# Altium schematic symbol library dungvh03-CERN_Logic.SchLib: 486 symbols (part 8 of 54)
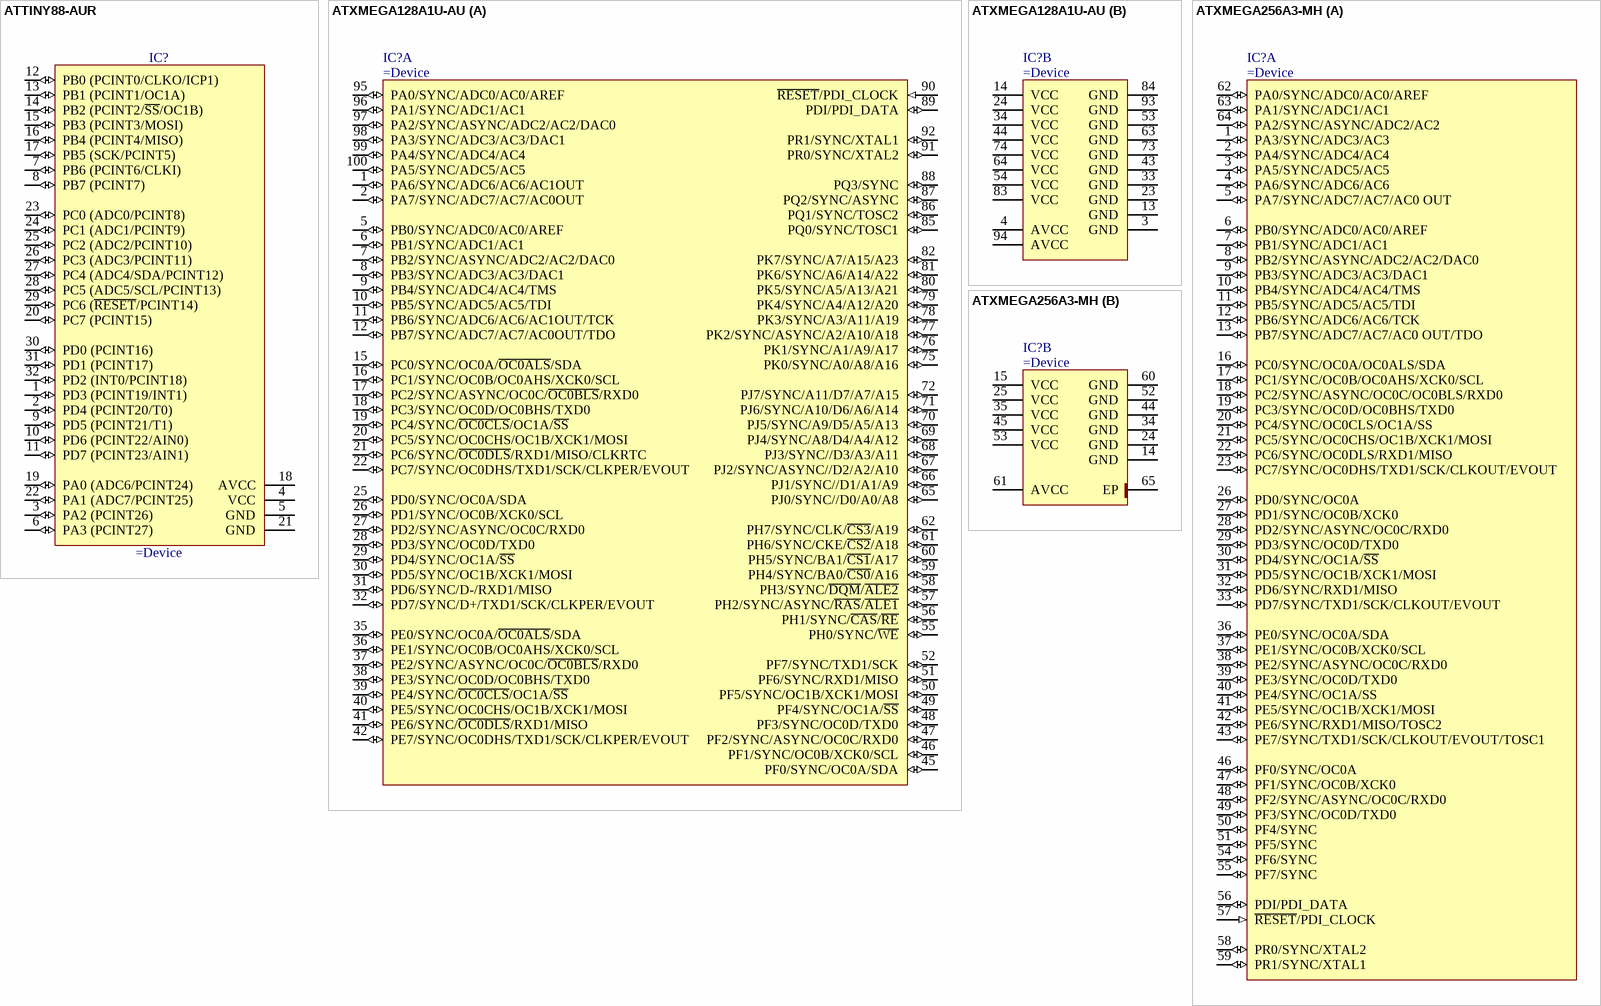
[diagram p268: symbols ATTINY88-AUR to ATXMEGA256A3-MH]

## ATXMEGA256A3-MH
designator IC?
8/16-bit AVR XMEGA A3 Microcontroller, 1.6-3.6V, 32MHz, 256KB + 8KB Flash, 4KB EEPROM, 16KB SRAM, 64-pin MLF, Industrial Grade (-40°C to 85°C), Pb-Free
part A pins: 1 PA3/SYNC/ADC3/AC3 (io), 2 PA4/SYNC/ADC4/AC4 (io), 3 PA5/SYNC/ADC5/AC5 (io), 4 PA6/SYNC/ADC6/AC6 (io), 5 PA7/SYNC/ADC7/AC7/AC0 OUT (io), 6 PB0/SYNC/ADC0/AC0/AREF (io), 7 PB1/SYNC/ADC1/AC1 (io), 8 PB2/SYNC/ASYNC/ADC2/AC2/DAC0 (io), 9 PB3/SYNC/ADC3/AC3/DAC1 (io), 10 PB4/SYNC/ADC4/AC4/TMS (io), 11 PB5/SYNC/ADC5/AC5/TDI (io), 12 PB6/SYNC/ADC6/AC6/TCK (io), 13 PB7/SYNC/ADC7/AC7/AC0 OUT/TDO (io), 16 PC0/SYNC/OC0A/OC0ALS/SDA (io), 17 PC1/SYNC/OC0B/OC0AHS/XCK0/SCL (io), 18 PC2/SYNC/ASYNC/OC0C/OC0BLS/RXD0 (io), 19 PC3/SYNC/OC0D/OC0BHS/TXD0 (io), 20 PC4/SYNC/OC0CLS/OC1A/SS (io), 21 PC5/SYNC/OC0CHS/OC1B/XCK1/MOSI (io), 22 PC6/SYNC/OC0DLS/RXD1/MISO (io), 23 PC7/SYNC/OC0DHS/TXD1/SCK/CLKOUT/EVOUT (io), 26 PD0/SYNC/OC0A (io), 27 PD1/SYNC/OC0B/XCK0 (io), 28 PD2/SYNC/ASYNC/OC0C/RXD0 (io), 29 PD3/SYNC/OC0D/TXD0 (io), 30 PD4/SYNC/OC1A/~{SS} (io), 31 PD5/SYNC/OC1B/XCK1/MOSI (io), 32 PD6/SYNC/RXD1/MISO (io), 33 PD7/SYNC/TXD1/SCK/CLKOUT/EVOUT (io), 36 PE0/SYNC/OC0A/SDA (io), 37 PE1/SYNC/OC0B/XCK0/SCL (io), 38 PE2/SYNC/ASYNC/OC0C/RXD0 (io), 39 PE3/SYNC/OC0D/TXD0 (io), 40 PE4/SYNC/OC1A/SS (io), 41 PE5/SYNC/OC1B/XCK1/MOSI (io), 42 PE6/SYNC/RXD1/MISO/TOSC2 (io), 43 PE7/SYNC/TXD1/SCK/CLKOUT/EVOUT/TOSC1 (io), 46 PF0/SYNC/OC0A (io), 47 PF1/SYNC/OC0B/XCK0 (io), 48 PF2/SYNC/ASYNC/OC0C/RXD0 (io), 49 PF3/SYNC/OC0D/TXD0 (io), 50 PF4/SYNC (io), 51 PF5/SYNC (io), 54 PF6/SYNC (io), 55 PF7/SYNC (io), 56 PDI/PDI_DATA (io), 57 ~{RESET}/PDI_CLOCK (in), 58 PR0/SYNC/XTAL2 (io), 59 PR1/SYNC/XTAL1 (io), 62 PA0/SYNC/ADC0/AC0/AREF (io), 63 PA1/SYNC/ADC1/AC1 (io), 64 PA2/SYNC/ASYNC/ADC2/AC2 (io)
part B pins: 14 GND (power), 15 VCC (power), 24 GND (power), 25 VCC (power), 34 GND (power), 35 VCC (power), 44 GND (power), 45 VCC (power), 52 GND (power), 53 VCC (power), 60 GND (power), 61 AVCC (power), 65 EP (power)

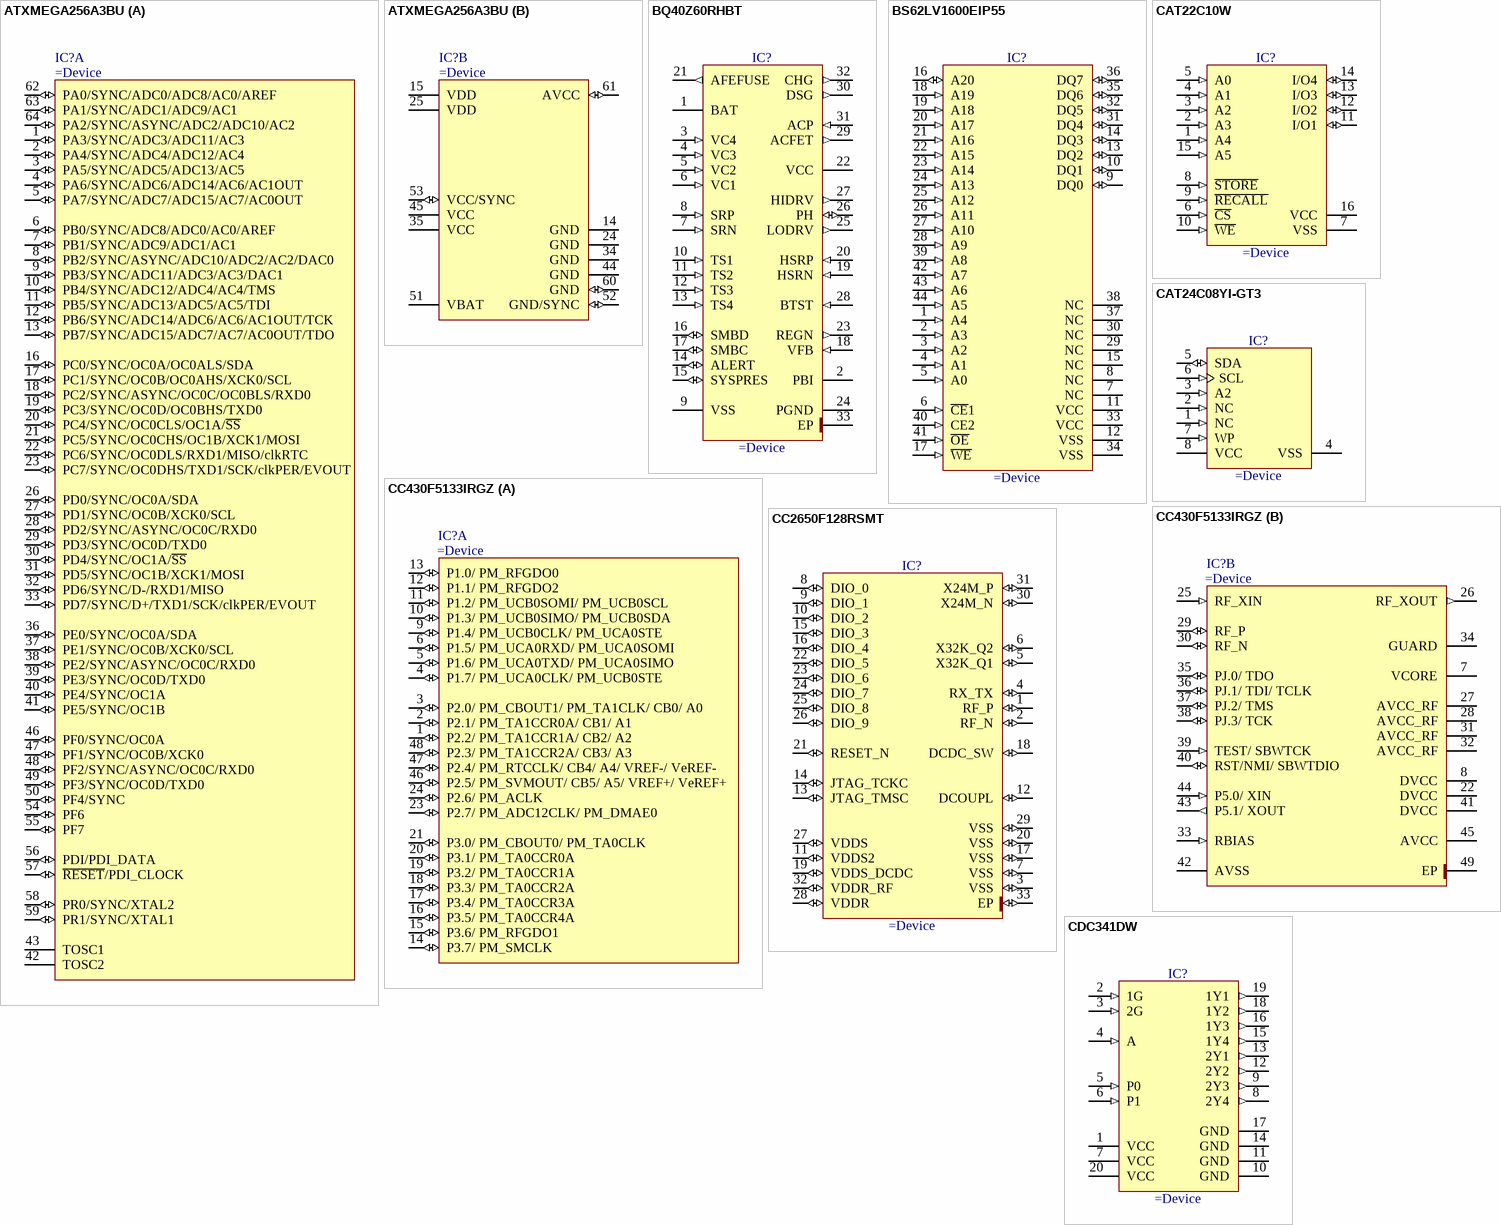
[diagram p40: symbols ATXMEGA256A3BU to CDC341DW]

## ATXMEGA256A3BU
designator IC?
8/16-bit XMEGA A3BU 32MHz Microcontroller With 256KBytes of in-System Self-Programmable Flash
part A pins: 1 PA3/SYNC/ADC3/ADC11/AC3 (io), 2 PA4/SYNC/ADC4/ADC12/AC4 (io), 3 PA5/SYNC/ADC5/ADC13/AC5 (io), 4 PA6/SYNC/ADC6/ADC14/AC6/AC1OUT (io), 5 PA7/SYNC/ADC7/ADC15/AC7/AC0OUT (io), 6 PB0/SYNC/ADC8/ADC0/AC0/AREF (io), 7 PB1/SYNC/ADC9/ADC1/AC1 (io), 8 PB2/SYNC/ASYNC/ADC10/ADC2/AC2/DAC0 (io), 9 PB3/SYNC/ADC11/ADC3/AC3/DAC1 (io), 10 PB4/SYNC/ADC12/ADC4/AC4/TMS (io), 11 PB5/SYNC/ADC13/ADC5/AC5/TDI (io), 12 PB6/SYNC/ADC14/ADC6/AC6/AC1OUT/TCK (io), 13 PB7/SYNC/ADC15/ADC7/AC7/AC0OUT/TDO (io), 16 PC0/SYNC/OC0A/OC0ALS/SDA (io), 17 PC1/SYNC/OC0B/OC0AHS/XCK0/SCL (io), 18 PC2/SYNC/ASYNC/OC0C/OC0BLS/RXD0 (io), 19 PC3/SYNC/OC0D/OC0BHS/TXD0 (io), 20 PC4/SYNC/OC0CLS/OC1A/~{SS} (io), 21 PC5/SYNC/OC0CHS/OC1B/XCK1/MOSI (io), 22 PC6/SYNC/OC0DLS/RXD1/MISO/clkRTC (io), 23 PC7/SYNC/OC0DHS/TXD1/SCK/clkPER/EVOUT (io), 26 PD0/SYNC/OC0A/SDA (io), 27 PD1/SYNC/OC0B/XCK0/SCL (io), 28 PD2/SYNC/ASYNC/OC0C/RXD0 (io), 29 PD3/SYNC/OC0D/TXD0 (io), 30 PD4/SYNC/OC1A/~{SS} (io), 31 PD5/SYNC/OC1B/XCK1/MOSI (io), 32 PD6/SYNC/D-/RXD1/MISO (io), 33 PD7/SYNC/D+/TXD1/SCK/clkPER/EVOUT (io), 36 PE0/SYNC/OC0A/SDA (io), 37 PE1/SYNC/OC0B/XCK0/SCL (io), 38 PE2/SYNC/ASYNC/OC0C/RXD0 (io), 39 PE3/SYNC/OC0D/TXD0 (io), 40 PE4/SYNC/OC1A (io), 41 PE5/SYNC/OC1B (io), 42 TOSC2, 43 TOSC1, 46 PF0/SYNC/OC0A (io), 47 PF1/SYNC/OC0B/XCK0 (io), 48 PF2/SYNC/ASYNC/OC0C/RXD0 (io), 49 PF3/SYNC/OC0D/TXD0 (io), 50 PF4/SYNC (io), 54 PF6 (io), 55 PF7 (io), 56 PDI/PDI_DATA (io), 57 ~{RESET}/PDI_CLOCK (io), 58 PR0/SYNC/XTAL2 (io), 59 PR1/SYNC/XTAL1 (io), 62 PA0/SYNC/ADC0/ADC8/AC0/AREF (io), 63 PA1/SYNC/ADC1/ADC9/AC1 (io), 64 PA2/SYNC/ASYNC/ADC2/ADC10/AC2 (io)
part B pins: 14 GND (power), 15 VDD (power), 24 GND (power), 25 VDD (power), 34 GND (power), 35 VCC (power), 44 GND (power), 45 VCC (power), 51 VBAT (power), 52 GND/SYNC (io), 53 VCC/SYNC (io), 60 GND (io), 61 AVCC (io)

## BQ40Z60RHBT
designator IC?
Programmable Battery Management Unit
pins: 1 BAT (power), 2 PBI (power), 3 VC4 (in), 4 VC3 (in), 5 VC2 (in), 6 VC1 (in), 7 SRN (in), 8 SRP (in), 9 VSS (power), 10 TS1 (in), 11 TS2 (in), 12 TS3 (in), 13 TS4 (in), 14 ALERT (io), 15 SYSPRES (io), 16 SMBD (io), 17 SMBC (io), 18 VFB (in), 19 HSRN (in), 20 HSRP (in), 21 AFEFUSE (out), 22 VCC (power), 23 REGN (out), 24 PGND (power), 25 LODRV (out), 26 PH (io), 27 HIDRV (out), 28 BTST (in), 29 ACFET (out), 30 DSG (out), 31 ACP (in), 32 CHG (out), 33 EP (power)

## BS62LV1600EIP55
designator IC?
2.4V-5.5V Low Power 2M x 8Bit CMOS SRAM
pins: 1 A4 (in), 2 A3 (in), 3 A2 (in), 4 A1 (in), 5 A0 (in), 6 ~{CE}1 (in), 7 NC, 8 NC, 9 DQ0 (io), 10 DQ1 (io), 11 VCC (power), 12 VSS (power), 13 DQ2 (io), 14 DQ3 (io), 15 NC, 16 A20 (io), 17 ~{WE} (in), 18 A19 (in), 19 A18 (in), 20 A17 (in), 21 A16 (in), 22 A15 (in), 23 A14 (in), 24 A13 (in), 25 A12 (in), 26 A11 (in), 27 A10 (in), 28 A9 (in), 29 NC, 30 NC, 31 DQ4 (io), 32 DQ5 (io), 33 VCC (power), 34 VSS (power), 35 DQ6 (io), 36 DQ7 (io), 37 NC, 38 NC, 39 A8 (in), 40 CE2 (in), 41 ~{OE} (in), 42 A7 (in), 43 A6 (in), 44 A5 (in)

## CAT22C10W
designator IC?
256 bit NV CMOS Static RAM
pins: 1 A4 (in), 2 A3 (in), 3 A2 (in), 4 A1 (in), 5 A0 (in), 6 ~{CS} (in), 7 VSS (power), 8 ~{STORE} (in), 9 ~{RECALL} (in), 10 ~{WE} (in), 11 I/O1 (io), 12 I/O2 (io), 13 I/O3 (io), 14 I/O4 (io), 15 A5 (in), 16 VCC (power)

## CAT24C08YI-GT3
designator IC?
1.7V-5.5V, 8K I2C Serial EEPROM Memory
pins: 1 NC (in), 2 NC (in), 3 A2 (in), 4 VSS (power), 5 SDA (io), 6 SCL (in), 7 WP (in), 8 VCC (power)

## CC430F5133IRGZ
designator IC?
MSP430™ SoC With RF Core
part A pins: 1 P2.2/ PM_TA1CCR1A/ CB2/ A2 (io), 2 P2.1/ PM_TA1CCR0A/ CB1/ A1 (io), 3 P2.0/ PM_CBOUT1/ PM_TA1CLK/ CB0/ A0 (io), 4 P1.7/ PM_UCA0CLK/ PM_UCB0STE (io), 5 P1.6/ PM_UCA0TXD/ PM_UCA0SIMO (io), 6 P1.5/ PM_UCA0RXD/ PM_UCA0SOMI (io), 9 P1.4/ PM_UCB0CLK/ PM_UCA0STE (io), 10 P1.3/ PM_UCB0SIMO/ PM_UCB0SDA (io), 11 P1.2/ PM_UCB0SOMI/ PM_UCB0SCL (io), 12 P1.1/ PM_RFGDO2 (io), 13 P1.0/ PM_RFGDO0 (io), 14 P3.7/ PM_SMCLK (io), 15 P3.6/ PM_RFGDO1 (io), 16 P3.5/ PM_TA0CCR4A (io), 17 P3.4/ PM_TA0CCR3A (io), 18 P3.3/ PM_TA0CCR2A (io), 19 P3.2/ PM_TA0CCR1A (io), 20 P3.1/ PM_TA0CCR0A (io), 21 P3.0/ PM_CBOUT0/ PM_TA0CLK (io), 23 P2.7/ PM_ADC12CLK/ PM_DMAE0 (io), 24 P2.6/ PM_ACLK (io), 46 P2.5/ PM_SVMOUT/ CB5/ A5/ VREF+/ VeREF+ (io), 47 P2.4/ PM_RTCCLK/ CB4/ A4/ VREF-/ VeREF- (io), 48 P2.3/ PM_TA1CCR2A/ CB3/ A3 (io)
part B pins: 7 VCORE (power), 8 DVCC (power), 22 DVCC (power), 25 RF_XIN (in), 26 RF_XOUT (out), 27 AVCC_RF (power), 28 AVCC_RF (power), 29 RF_P (io), 30 RF_N (io), 31 AVCC_RF (power), 32 AVCC_RF (power), 33 RBIAS (in), 34 GUARD (power), 35 PJ.0/ TDO (io), 36 PJ.1/ TDI/ TCLK (io), 37 PJ.2/ TMS (io), 38 PJ.3/ TCK (io), 39 TEST/ SBWTCK (in), 40 RST/NMI/ SBWTDIO (io), 41 DVCC (power), 42 AVSS (power), 43 P5.1/ XOUT (out), 44 P5.0/ XIN (in), 45 AVCC (power), 49 EP (power)

## CC2650F128RSMT
designator IC?
Powerful ARM® Cortex®-M3, SimpleLink™ Multistandard Wireless MCU
pins: 1 RF_P (io), 2 RF_N (io), 3 VSS (io), 4 RX_TX (io), 5 X32K_Q1 (io), 6 X32K_Q2 (io), 7 VSS (io), 8 DIO_0 (io), 9 DIO_1 (io), 10 DIO_2 (io), 11 VDDS2 (io), 12 DCOUPL (io), 13 JTAG_TMSC (io), 14 JTAG_TCKC (io), 15 DIO_3 (io), 16 DIO_4 (io), 17 VSS (io), 18 DCDC_SW (io), 19 VDDS_DCDC (io), 20 VSS (io), 21 RESET_N (io), 22 DIO_5 (io), 23 DIO_6 (io), 24 DIO_7 (io), 25 DIO_8 (io), 26 DIO_9 (io), 27 VDDS (io), 28 VDDR (io), 29 VSS (io), 30 X24M_N (io), 31 X24M_P (io), 32 VDDR_RF (io), 33 EP (io)

## CDC341DW
designator IC?
1-Line to 8-Line Clock Buffer
pins: 1 VCC (power), 2 1G (in), 3 2G (in), 4 A (in), 5 P0 (in), 6 P1 (in), 7 VCC (power), 8 2Y4 (out), 9 2Y3 (out), 10 GND (power), 11 GND (power), 12 2Y2 (out), 13 2Y1 (out), 14 GND (power), 15 1Y4 (out), 16 1Y3 (out), 17 GND (power), 18 1Y2 (out), 19 1Y1 (out), 20 VCC (power)

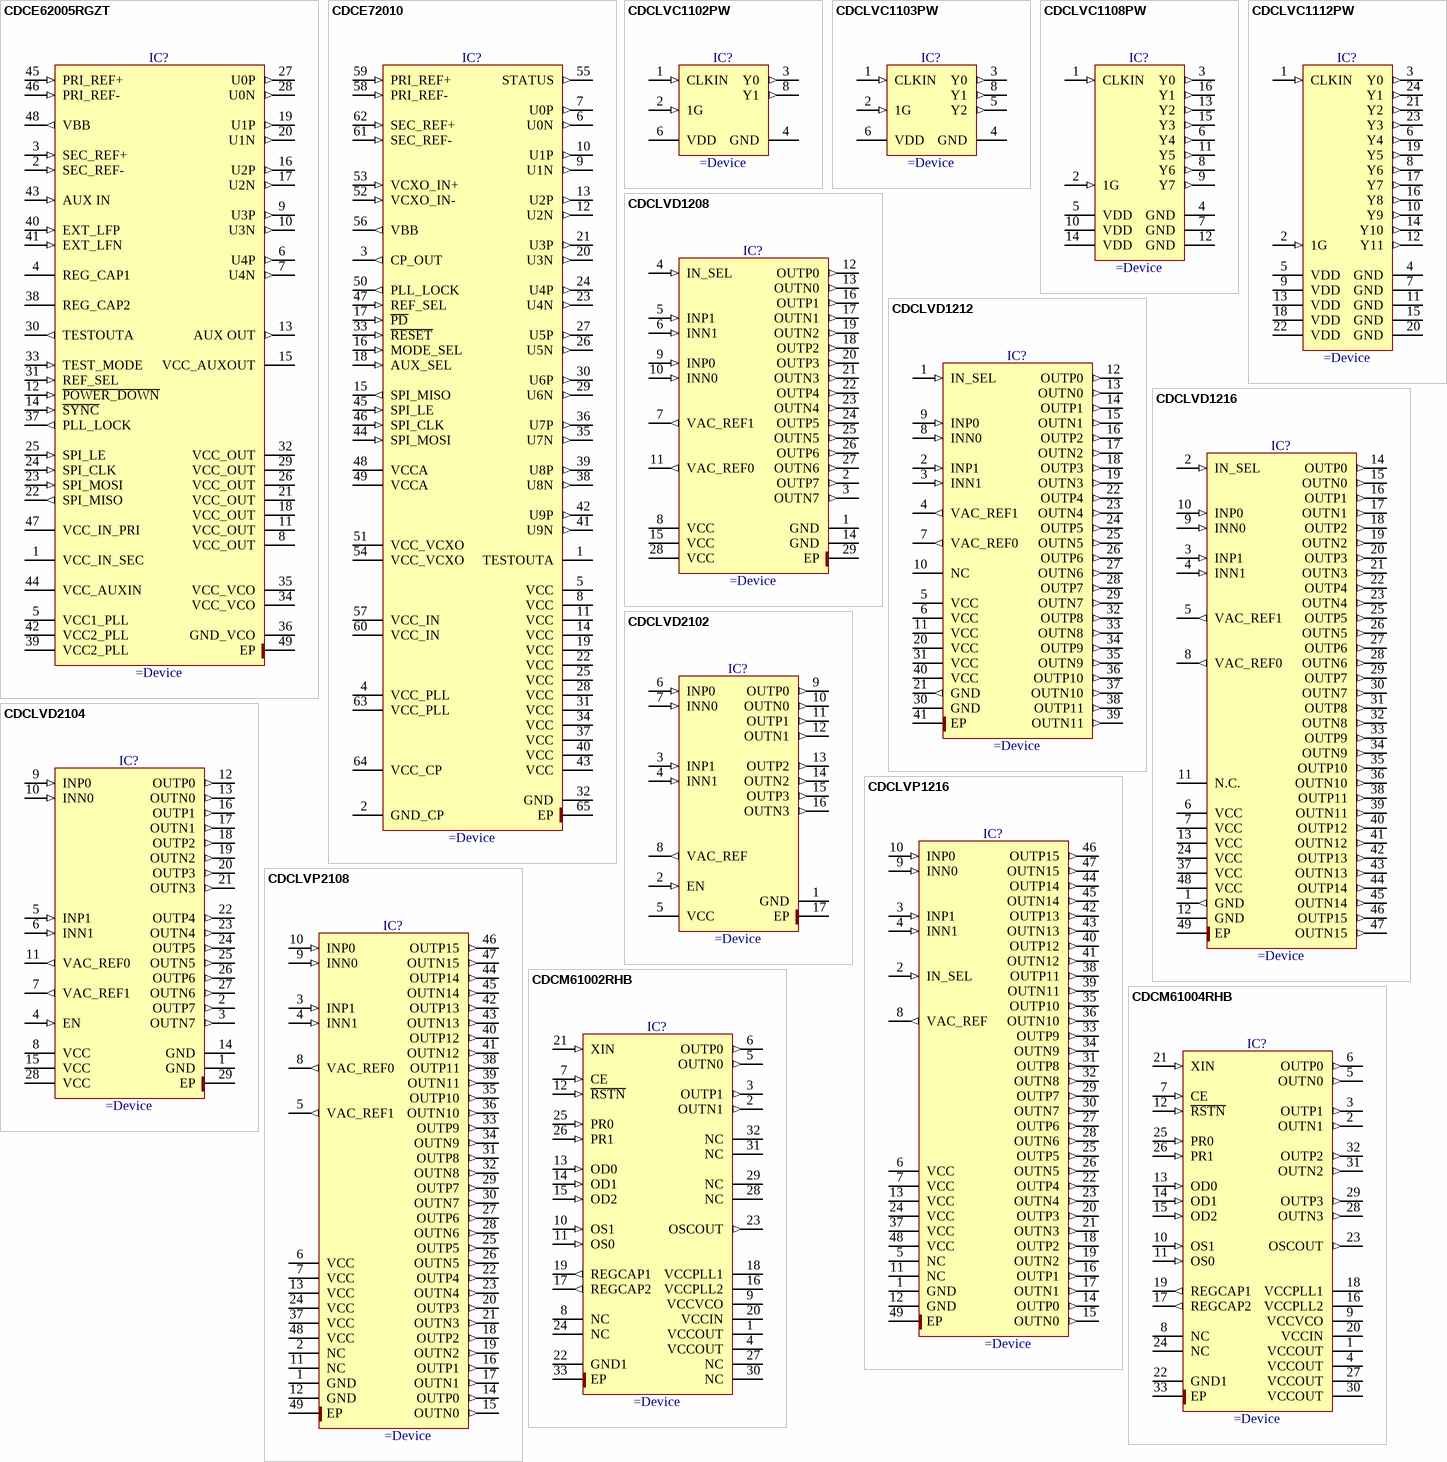
[diagram p41: symbols CDCE62005RGZT to CDCM61004RHB]

## CDCE62005RGZT
designator IC?
5/10 Outputs Clock Generator/Jitter Cleaner with Integrated Dual VCO
pins: 1 VCC_IN_SEC (power), 2 SEC_REF- (in), 3 SEC_REF+ (in), 4 REG_CAP1, 5 VCC1_PLL (power), 6 U4P (out), 7 U4N (out), 8 VCC_OUT (power), 9 U3P (out), 10 U3N (out), 11 VCC_OUT (power), 12 ~{POWER_DOWN} (in), 13 AUX OUT (out), 14 ~{SYNC} (in), 15 VCC_AUXOUT (power), 16 U2P (out), 17 U2N (out), 18 VCC_OUT (power), 19 U1P (out), 20 U1N (out), 21 VCC_OUT (power), 22 SPI_MISO (out), 23 SPI_MOSI (in), 24 SPI_CLK (in), 25 SPI_LE (in), 26 VCC_OUT (power), 27 U0P (out), 28 U0N (out), 29 VCC_OUT (power), 30 TESTOUTA (out), 31 REF_SEL (in), 32 VCC_OUT (power), 33 TEST_MODE (in), 34 VCC_VCO (power), 35 VCC_VCO (power), 36 GND_VCO (power), 37 PLL_LOCK (out), 38 REG_CAP2, 39 VCC2_PLL (power), 40 EXT_LFP (in), 41 EXT_LFN (in), 42 VCC2_PLL (power), 43 AUX IN (in), 44 VCC_AUXIN (power), 45 PRI_REF+ (in), 46 PRI_REF- (in), 47 VCC_IN_PRI (power), 48 VBB (out), 49 EP (power)

## CDCE72010
designator IC?
Ten Output High Performance Clock Synchronizer, Jitter Cleaner, and Clock Distributor
pins: 1 TESTOUTA, 2 GND_CP (power), 3 CP_OUT (out), 4 VCC_PLL (power), 5 VCC (power), 6 U0N (out), 7 U0P (out), 8 VCC (power), 9 U1N (out), 10 U1P (out), 11 VCC (power), 12 U2N (out), 13 U2P (out), 14 VCC (power), 15 SPI_MISO (out), 16 MODE_SEL (in), 17 ~{PD} (in), 18 AUX_SEL (in), 19 VCC (power), 20 U3N (out), 21 U3P (out), 22 VCC (power), 23 U4N (out), 24 U4P (out), 25 VCC (power), 26 U5N (out), 27 U5P (out), 28 VCC (power), 29 U6N (out), 30 U6P (out), 31 VCC (power), 32 GND (power), 33 ~{RESET} (in), 34 VCC (power), 35 U7N (out), 36 U7P (out), 37 VCC (power), 38 U8N (out), 39 U8P (out), 40 VCC (power), 41 U9N (out), 42 U9P (out), 43 VCC (power), 44 SPI_MOSI (in), 45 SPI_LE (in), 46 SPI_CLK (in), 47 REF_SEL (in), 48 VCCA (power), 49 VCCA (power), 50 PLL_LOCK (out), 51 VCC_VCXO (power), 52 VCXO_IN- (in), 53 VCXO_IN+ (in), 54 VCC_VCXO (power), 55 STATUS (out), 56 VBB (out), 57 VCC_IN (power), 58 PRI_REF- (in), 59 PRI_REF+ (in), 60 VCC_IN (power), 61 SEC_REF- (in), 62 SEC_REF+ (in), 63 VCC_PLL (power), 64 VCC_CP (power), 65 EP (power)

## CDCLVC1102PW
designator IC?
3.3 V and 2.5 V LVCMOS 1:2  High-Performance Clock Buffer
pins: 1 CLKIN (in), 2 1G (in), 3 Y0 (out), 4 GND (power), 6 VDD (power), 8 Y1 (out)

## CDCLVC1103PW
designator IC?
3.3 V and 2.5 V LVCMOS 1:3 High-Performance Clock Buffer
pins: 1 CLKIN (in), 2 1G (in), 3 Y0 (out), 4 GND (power), 5 Y2 (out), 6 VDD (power), 8 Y1 (out)

## CDCLVC1108PW
designator IC?
3.3V and 2.5V LVCMOS 1:8 High-Performance Clock Buffer
pins: 1 CLKIN (in), 2 1G (in), 3 Y0 (out), 4 GND (power), 5 VDD (power), 6 Y4 (out), 7 GND (power), 8 Y6 (out), 9 Y7 (out), 10 VDD (power), 11 Y5 (out), 12 GND (power), 13 Y2 (out), 14 VDD (power), 15 Y3 (out), 16 Y1 (out)

## CDCLVC1112PW
designator IC?
3.3 V and 2.5 V LVCMOS 1:12 High-Performance Clock Buffer
pins: 1 CLKIN (in), 2 1G (in), 3 Y0 (out), 4 GND (power), 5 VDD (power), 6 Y4 (out), 7 GND (power), 8 Y6 (out), 9 VDD (power), 10 Y9 (out), 11 GND (power), 12 Y11 (out), 13 VDD (power), 14 Y10 (out), 15 GND (power), 16 Y8 (out), 17 Y7 (out), 18 VDD (power), 19 Y5 (out), 20 GND (power), 21 Y2 (out), 22 VDD (power), 23 Y3 (out), 24 Y1 (out)

## CDCLVD1208
designator IC?
2:8 Low Additive Jitter LVDS Buffer
pins: 1 GND (power), 2 OUTP7 (out), 3 OUTN7 (out), 4 IN_SEL (in), 5 INP1 (in), 6 INN1 (in), 7 VAC_REF1 (out), 8 VCC (power), 9 INP0 (in), 10 INN0 (in), 11 VAC_REF0 (out), 12 OUTP0 (out), 13 OUTN0 (out), 14 GND (power), 15 VCC (power), 16 OUTP1 (out), 17 OUTN1 (out), 18 OUTP2 (out), 19 OUTN2 (out), 20 OUTP3 (out), 21 OUTN3 (out), 22 OUTP4 (out), 23 OUTN4 (out), 24 OUTP5 (out), 25 OUTN5 (out), 26 OUTP6 (out), 27 OUTN6 (out), 28 VCC (power), 29 EP (power)

## CDCLVD1212
designator IC?
2:12 Low Additive Jitter LVDS Buffer
pins: 1 IN_SEL (in), 2 INP1 (in), 3 INN1 (in), 4 VAC_REF1 (out), 5 VCC (power), 6 VCC (power), 7 VAC_REF0 (out), 8 INN0 (in), 9 INP0 (in), 10 NC, 11 VCC (power), 12 OUTP0 (out), 13 OUTN0 (out), 14 OUTP1 (out), 15 OUTN1 (out), 16 OUTP2 (out), 17 OUTN2 (out), 18 OUTP3 (out), 19 OUTN3 (out), 20 VCC (power), 21 GND (out), 22 OUTP4 (out), 23 OUTN4 (out), 24 OUTP5 (out), 25 OUTN5 (out), 26 OUTP6 (out), 27 OUTN6 (out), 28 OUTP7 (out), 29 OUTN7 (out), 30 GND (power), 31 VCC (power), 32 OUTP8 (out), 33 OUTN8 (out), 34 OUTP9 (out), 35 OUTN9 (out), 36 OUTP10 (out), 37 OUTN10 (out), 38 OUTP11 (out), 39 OUTN11 (out), 40 VCC (power), 41 EP (power)

## CDCLVD1216
designator IC?
2:16 Low Additive Jitter LVDS Buffer
pins: 1 GND (out), 2 IN_SEL (in), 3 INP1 (in), 4 INN1 (in), 5 VAC_REF1 (out), 6 VCC (power), 7 VCC (power), 8 VAC_REF0 (out), 9 INN0 (in), 10 INP0 (in), 11 N.C., 12 GND (power), 13 VCC (power), 14 OUTP0 (out), 15 OUTN0 (out), 16 OUTP1 (out), 17 OUTN1 (out), 18 OUTP2 (out), 19 OUTN2 (out), 20 OUTP3 (out), 21 OUTN3 (out), 22 OUTP4 (out), 23 OUTN4 (out), 24 VCC (power), 25 OUTP5 (out), 26 OUTN5 (out), 27 OUTP6 (out), 28 OUTN6 (out), 29 OUTP7 (out), 30 OUTN7 (out), 31 OUTP8 (out), 32 OUTN8 (out), 33 OUTP9 (out), 34 OUTN9 (out), 35 OUTP10 (out), 36 OUTN10 (out), 37 VCC (power), 38 OUTP11 (out), 39 OUTN11 (out), 40 OUTP12 (out), 41 OUTN12 (out), 42 OUTP13 (out), 43 OUTN13 (out), 44 OUTP14 (out), 45 OUTN14 (out), 46 OUTP15 (out), 47 OUTN15 (out), 48 VCC (power), 49 EP (power)

## CDCLVD2102
designator IC?
Dual 1:2 Low Additive Jitter LVDS Buffer
pins: 1 GND (power), 2 EN (in), 3 INP1 (in), 4 INN1 (in), 5 VCC (power), 6 INP0 (in), 7 INN0 (in), 8 VAC_REF (out), 9 OUTP0 (out), 10 OUTN0 (out), 11 OUTP1 (out), 12 OUTN1 (out), 13 OUTP2 (out), 14 OUTN2 (out), 15 OUTP3 (out), 16 OUTN3 (out), 17 EP (power)

## CDCLVD2104
designator IC?
Dual 1:4 Low Additive Jitter LVDS Buffer
pins: 1 GND (power), 2 OUTP7 (out), 3 OUTN7 (out), 4 EN (in), 5 INP1 (in), 6 INN1 (in), 7 VAC_REF1 (out), 8 VCC (power), 9 INP0 (in), 10 INN0 (in), 11 VAC_REF0 (out), 12 OUTP0 (out), 13 OUTN0 (out), 14 GND (power), 15 VCC (power), 16 OUTP1 (out), 17 OUTN1 (out), 18 OUTP2 (out), 19 OUTN2 (out), 20 OUTP3 (out), 21 OUTN3 (out), 22 OUTP4 (out), 23 OUTN4 (out), 24 OUTP5 (out), 25 OUTN5 (out), 26 OUTP6 (out), 27 OUTN6 (out), 28 VCC (power), 29 EP (power)

## CDCLVP1216
designator IC?
Low Jitter, 2-Input Selectable 1:16 Universal-to-LVPECL Buffer
pins: 1 GND (power), 2 IN_SEL (in), 3 INP1 (in), 4 INN1 (in), 5 NC, 6 VCC (power), 7 VCC (power), 8 VAC_REF (out), 9 INN0 (in), 10 INP0 (in), 11 NC, 12 GND (power), 13 VCC (power), 14 OUTP0 (out), 15 OUTN0 (out), 16 OUTP1 (out), 17 OUTN1 (out), 18 OUTP2 (out), 19 OUTN2 (out), 20 OUTP3 (out), 21 OUTN3 (out), 22 OUTP4 (out), 23 OUTN4 (out), 24 VCC (power), 25 OUTP5 (out), 26 OUTN5 (out), 27 OUTP6 (out), 28 OUTN6 (out), 29 OUTP7 (out), 30 OUTN7 (out), 31 OUTP8 (out), 32 OUTN8 (out), 33 OUTP9 (out), 34 OUTN9 (out), 35 OUTP10 (out), 36 OUTN10 (out), 37 VCC (power), 38 OUTP11 (out), 39 OUTN11 (out), 40 OUTP12 (out), 41 OUTN12 (out), 42 OUTP13 (out), 43 OUTN13 (out), 44 OUTP14 (out), 45 OUTN14 (out), 46 OUTP15 (out), 47 OUTN15 (out), 48 VCC (power), 49 EP (power)

## CDCLVP2108
designator IC?
16 LVPECL Output, High-Performance Clock Buffer
pins: 1 GND (power), 2 NC, 3 INP1 (in), 4 INN1 (in), 5 VAC_REF1 (out), 6 VCC (power), 7 VCC (power), 8 VAC_REF0 (out), 9 INN0 (in), 10 INP0 (in), 11 NC, 12 GND (power), 13 VCC (power), 14 OUTP0 (out), 15 OUTN0 (out), 16 OUTP1 (out), 17 OUTN1 (out), 18 OUTP2 (out), 19 OUTN2 (out), 20 OUTP3 (out), 21 OUTN3 (out), 22 OUTP4 (out), 23 OUTN4 (out), 24 VCC (power), 25 OUTP5 (out), 26 OUTN5 (out), 27 OUTP6 (out), 28 OUTN6 (out), 29 OUTP7 (out), 30 OUTN7 (out), 31 OUTP8 (out), 32 OUTN8 (out), 33 OUTP9 (out), 34 OUTN9 (out), 35 OUTP10 (out), 36 OUTN10 (out), 37 VCC (power), 38 OUTP11 (out), 39 OUTN11 (out), 40 OUTP12 (out), 41 OUTN12 (out), 42 OUTP13 (out), 43 OUTN13 (out), 44 OUTP14 (out), 45 OUTN14 (out), 46 OUTP15 (out), 47 OUTN15 (out), 48 VCC (power), 49 EP (power)

## CDCM61002RHB
designator IC?
Two Output, Integrated VCO, Low-Jitter Clock Generator
pins: 1 VCCOUT (power), 2 OUTN1 (out), 3 OUTP1 (out), 4 VCCOUT (power), 5 OUTN0 (out), 6 OUTP0 (out), 7 CE (in), 8 NC, 9 VCCVCO (power), 10 OS1 (in), 11 OS0 (in), 12 ~{RSTN} (in), 13 OD0 (in), 14 OD1 (in), 15 OD2 (in), 16 VCCPLL2 (power), 17 REGCAP2 (out), 18 VCCPLL1 (power), 19 REGCAP1 (out), 20 VCCIN (power), 21 XIN (in), 22 GND1 (power), 23 OSCOUT (out), 24 NC, 25 PR0 (in), 26 PR1 (in), 27 NC, 28 NC, 29 NC, 30 NC, 31 NC, 32 NC, 33 EP (power)

## CDCM61004RHB
designator IC?
Four Output, Integrated VCO, Low-Jitter Clock Generator
pins: 1 VCCOUT (power), 2 OUTN1 (out), 3 OUTP1 (out), 4 VCCOUT (power), 5 OUTN0 (out), 6 OUTP0 (out), 7 CE (in), 8 NC, 9 VCCVCO (power), 10 OS1 (in), 11 OS0 (in), 12 ~{RSTN} (in), 13 OD0 (in), 14 OD1 (in), 15 OD2 (in), 16 VCCPLL2 (power), 17 REGCAP2 (out), 18 VCCPLL1 (power), 19 REGCAP1 (out), 20 VCCIN (power), 21 XIN (in), 22 GND1 (power), 23 OSCOUT (out), 24 NC, 25 PR0 (in), 26 PR1 (in), 27 VCCOUT (power), 28 OUTN3 (out), 29 OUTP3 (out), 30 VCCOUT (power), 31 OUTN2 (out), 32 OUTP2 (out), 33 EP (power)

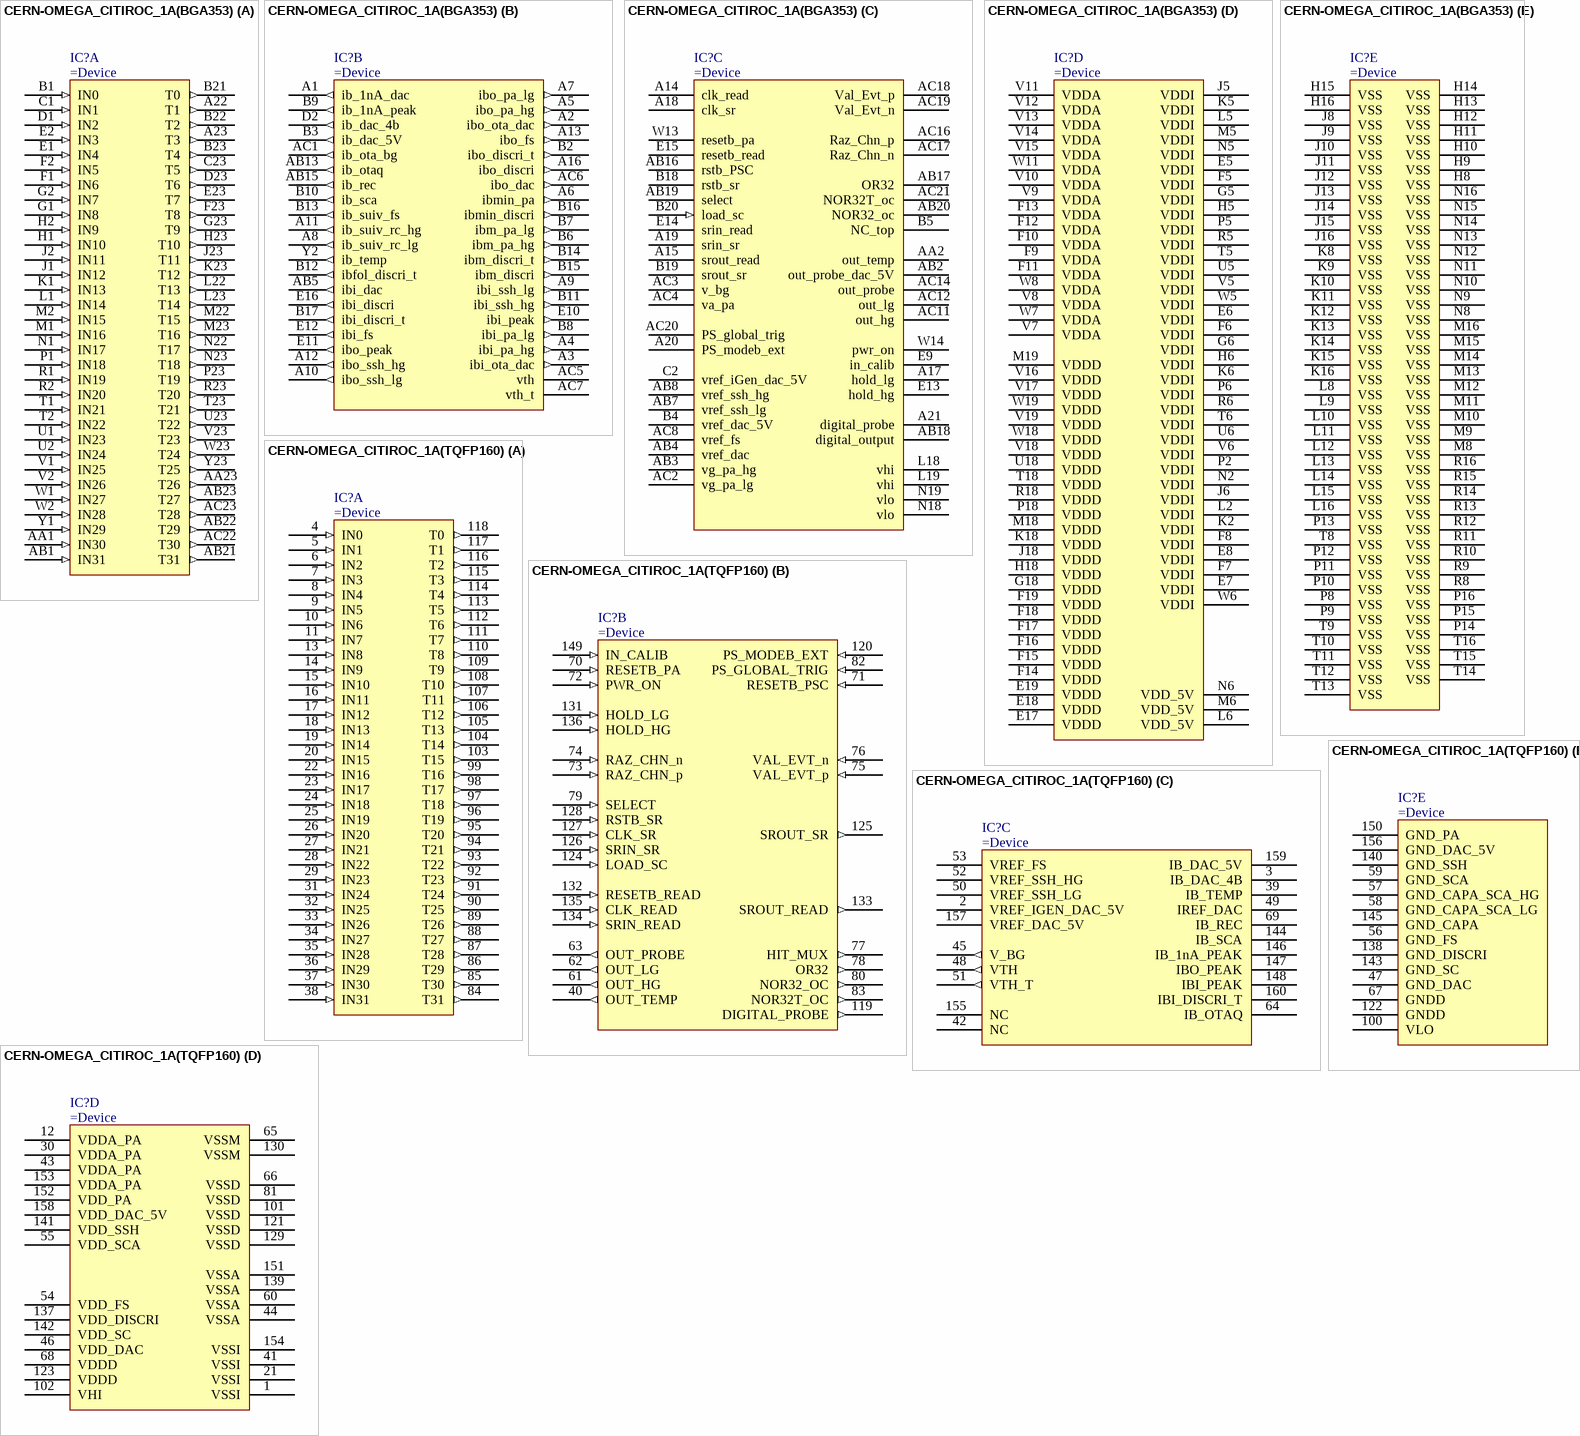
[diagram p42: symbols CERN-OMEGA_CITIROC_1A(BGA353) to CERN-OMEGA_CITIROC_1A(TQFP160)]

## CERN-OMEGA_CITIROC_1A(BGA353)
designator IC?
CITIROC 1A ASIC 32 Channels, 353-Ball BGA
part A pins: A22 T1 (out), A23 T3 (out), AA1 IN30 (in), AA23 T26 (out), AB1 IN31 (in), AB21 T31 (out), AB22 T29 (out), AB23 T27 (out), AC22 T30 (out), AC23 T28 (out), B1 IN0 (in), B21 T0 (out), B22 T2 (out), B23 T4 (out), C1 IN1 (in), C23 T5 (out), D1 IN2 (in), D23 T6 (out), E1 IN4 (in), E2 IN3 (in), E23 T7 (out), F1 IN6 (in), F2 IN5 (in), F23 T8 (out), G1 IN8 (in), G2 IN7 (in), G23 T9 (out), H1 IN10 (in), H2 IN9 (in), H23 T10 (out), J1 IN12 (in), J2 IN11 (in), J23 T11 (out), K1 IN13 (in), K23 T12 (out), L1 IN14 (in), L22 T13 (out), L23 T14 (out), M1 IN16 (in), M2 IN15 (in), M22 T15 (out), M23 T16 (out), N1 IN17 (in), N22 T17 (out), N23 T18 (out), P1 IN18 (in), P23 T19 (out), R1 IN19 (in), R2 IN20 (in), R23 T20 (out), T1 IN21 (in), T2 IN22 (in), T23 T21 (out), U1 IN23 (in), U2 IN24 (in), U23 T22 (out), V1 IN25 (in), V2 IN26 (in), V23 T23 (out), W1 IN27 (in), W2 IN28 (in), W23 T24 (out), Y1 IN29 (in), Y23 T25 (out)
part B pins: A1 ib_1nA_dac (out), A2 ibo_ota_dac (out), A3 ibi_ota_dac (out), A4 ibi_pa_hg (out), A5 ibo_pa_hg (out), A6 ibmin_pa (out), A7 ibo_pa_lg (out), A8 ib_suiv_rc_lg (out), A9 ibi_ssh_lg (out), A10 ibo_ssh_lg (out), A11 ib_suiv_rc_hg (out), A12 ibo_ssh_hg (out), A13 ibo_fs (out), A16 ibo_discri (out), AB5 ibi_dac (out), AB13 ib_otaq (out), AB15 ib_rec (out), AC1 ib_ota_bg (out), AC5 vth, AC6 ibo_dac (out), AC7 vth_t, B2 ibo_discri_t (out), B3 ib_dac_5V (out), B6 ibm_pa_hg (out), B7 ibm_pa_lg (out), B8 ibi_pa_lg (out), B9 ib_1nA_peak (out), B10 ib_sca (out), B11 ibi_ssh_hg (out), B12 ibfol_discri_t (out), B13 ib_suiv_fs (out), B14 ibm_discri_t (out), B15 ibm_discri (out), B16 ibmin_discri (out), B17 ibi_discri_t (out), D2 ib_dac_4b (out), E10 ibi_peak (out), E11 ibo_peak (out), E12 ibi_fs (out), E16 ibi_discri (out), Y2 ib_temp (out)
part C pins: A14 clk_read, A15 srout_read, A17 hold_lg, A18 clk_sr, A19 srin_sr, A20 PS_modeb_ext, A21 digital_probe, AA2 out_temp, AB2 out_probe_dac_5V, AB3 vg_pa_hg, AB4 vref_dac, AB7 vref_ssh_lg, AB8 vref_ssh_hg, AB16 rstb_PSC, AB17 OR32, AB18 digital_output, AB19 select, AB20 NOR32_oc, AC2 vg_pa_lg, AC3 v_bg, AC4 va_pa, AC8 vref_fs, AC11 out_hg, AC12 out_lg, AC14 out_probe, AC16 Raz_Chn_p, AC17 Raz_Chn_n, AC18 Val_Evt_p, AC19 Val_Evt_n, AC20 PS_global_trig, AC21 NOR32T_oc, B4 vref_dac_5V, B5 NC_top, B18 rstb_sr, B19 srout_sr, B20 load_sc (in), C2 vref_iGen_dac_5V, E9 in_calib, E13 hold_hg, E14 srin_read, E15 resetb_read, L18 vhi, L19 vhi, N18 vlo, N19 vlo, W13 resetb_pa, W14 pwr_on
part D pins: E5 VDDI (power), E6 VDDI (power), E7 VDDI (power), E8 VDDI (power), E17 VDDD (power), E18 VDDD (power), E19 VDDD (power), F5 VDDI (power), F6 VDDI (power), F7 VDDI (power), F8 VDDI (power), F9 VDDA (power), F10 VDDA (power), F11 VDDA (power), F12 VDDA (power), F13 VDDA (power), F14 VDDD (power), F15 VDDD (power), F16 VDDD (power), F17 VDDD (power), F18 VDDD (power), F19 VDDD (power), G5 VDDI (power), G6 VDDI (power), G18 VDDD (power), H5 VDDI (power), H6 VDDI (power), H18 VDDD (power), J5 VDDI (power), J6 VDDI (power), J18 VDDD (power), K2 VDDI (power), K5 VDDI (power), K6 VDDI (power), K18 VDDD (power), L2 VDDI (power), L5 VDDI (power), L6 VDD_5V (power), M5 VDDI (power), M6 VDD_5V (power), M18 VDDD (power), M19 VDDD (power), N2 VDDI (power), N5 VDDI (power), N6 VDD_5V (power), P2 VDDI (power), P5 VDDI (power), P6 VDDI (power), P18 VDDD (power), R5 VDDI (power), R6 VDDI (power), R18 VDDD (power), T5 VDDI (power), T6 VDDI (power), T18 VDDD (power), U5 VDDI (power), U6 VDDI (power), U18 VDDD (power), V5 VDDI (power), V6 VDDI (power), V7 VDDA (power), V8 VDDA (power), V9 VDDA (power), V10 VDDA (power), V11 VDDA (power), V12 VDDA (power), V13 VDDA (power), V14 VDDA (power), V15 VDDA (power), V16 VDDD (power), V17 VDDD (power), V18 VDDD (power), V19 VDDD (power), W5 VDDI (power), W6 VDDI (power), W7 VDDA (power), W8 VDDA (power), W11 VDDA (power), W18 VDDD (power), W19 VDDD (power)
part E pins: H8 VSS (power), H9 VSS (power), H10 VSS (power), H11 VSS (power), H12 VSS (power), H13 VSS (power), H14 VSS (power), H15 VSS (power), H16 VSS (power), J8 VSS (power), J9 VSS (power), J10 VSS (power), J11 VSS (power), J12 VSS (power), J13 VSS (power), J14 VSS (power), J15 VSS (power), J16 VSS (power), K8 VSS (power), K9 VSS (power), K10 VSS (power), K11 VSS (power), K12 VSS (power), K13 VSS (power), K14 VSS (power), K15 VSS (power), K16 VSS (power), L8 VSS (power), L9 VSS (power), L10 VSS (power), L11 VSS (power), L12 VSS (power), L13 VSS (power), L14 VSS (power), L15 VSS (power), L16 VSS (power), M8 VSS (power), M9 VSS (power), M10 VSS (power), M11 VSS (power), M12 VSS (power), M13 VSS (power), M14 VSS (power), M15 VSS (power), M16 VSS (power), N8 VSS (power), N9 VSS (power), N10 VSS (power), N11 VSS (power), N12 VSS (power), N13 VSS (power), N14 VSS (power), N15 VSS (power), N16 VSS (power), P8 VSS (power), P9 VSS (power), P10 VSS (power), P11 VSS (power), P12 VSS (power), P13 VSS (power), P14 VSS (power), P15 VSS (power), P16 VSS (power), R8 VSS (power), R9 VSS (power), R10 VSS (power), R11 VSS (power), R12 VSS (power), R13 VSS (power), R14 VSS (power), R15 VSS (power), R16 VSS (power), T8 VSS (power), T9 VSS (power), T10 VSS (power), T11 VSS (power), T12 VSS (power), T13 VSS (power), T14 VSS (power), T15 VSS (power), T16 VSS (power)

## CERN-OMEGA_CITIROC_1A(TQFP160)
designator IC?
CITIROC 1A ASIC 32 Channels, 160 QFP
part A pins: 4 IN0 (in), 5 IN1 (in), 6 IN2 (in), 7 IN3 (in), 8 IN4 (in), 9 IN5 (in), 10 IN6 (in), 11 IN7 (in), 13 IN8 (in), 14 IN9 (in), 15 IN10 (in), 16 IN11 (in), 17 IN12 (in), 18 IN13 (in), 19 IN14 (in), 20 IN15 (in), 22 IN16 (in), 23 IN17 (in), 24 IN18 (in), 25 IN19 (in), 26 IN20 (in), 27 IN21 (in), 28 IN22 (in), 29 IN23 (in), 31 IN24 (in), 32 IN25 (in), 33 IN26 (in), 34 IN27 (in), 35 IN28 (in), 36 IN29 (in), 37 IN30 (in), 38 IN31 (in), 84 T31 (out), 85 T30 (out), 86 T29 (out), 87 T28 (out), 88 T27 (out), 89 T26 (out), 90 T25 (out), 91 T24 (out), 92 T23 (out), 93 T22 (out), 94 T21 (out), 95 T20 (out), 96 T19 (out), 97 T18 (out), 98 T17 (out), 99 T16 (out), 103 T15 (out), 104 T14 (out), 105 T13 (out), 106 T12 (out), 107 T11 (out), 108 T10 (out), 109 T9 (out), 110 T8 (out), 111 T7 (out), 112 T6 (out), 113 T5 (out), 114 T4 (out), 115 T3 (out), 116 T2 (out), 117 T1 (out), 118 T0 (out)
part B pins: 40 OUT_TEMP (out), 61 OUT_HG (out), 62 OUT_LG (out), 63 OUT_PROBE (out), 70 RESETB_PA (in), 71 RESETB_PSC (in), 72 PWR_ON (in), 73 RAZ_CHN_p (in), 74 RAZ_CHN_n (in), 75 VAL_EVT_p (in), 76 VAL_EVT_n (in), 77 HIT_MUX (out), 78 OR32 (out), 79 SELECT (in), 80 NOR32_OC (out), 82 PS_GLOBAL_TRIG (in), 83 NOR32T_OC (out), 119 DIGITAL_PROBE (out), 120 PS_MODEB_EXT (in), 124 LOAD_SC (in), 125 SROUT_SR (out), 126 SRIN_SR (in), 127 CLK_SR (in), 128 RSTB_SR (in), 131 HOLD_LG (in), 132 RESETB_READ (in), 133 SROUT_READ (out), 134 SRIN_READ (in), 135 CLK_READ (in), 136 HOLD_HG (in), 149 IN_CALIB (in)
part C pins: 2 VREF_IGEN_DAC_5V, 3 IB_DAC_4B, 39 IB_TEMP, 42 NC, 45 V_BG (out), 48 VTH (out), 49 IREF_DAC, 50 VREF_SSH_LG, 51 VTH_T (out), 52 VREF_SSH_HG, 53 VREF_FS, 64 IB_OTAQ, 69 IB_REC, 144 IB_SCA, 146 IB_1nA_PEAK, 147 IBO_PEAK, 148 IBI_PEAK, 155 NC, 157 VREF_DAC_5V, 159 IB_DAC_5V, 160 IBI_DISCRI_T
part D pins: 1 VSSI (power), 12 VDDA_PA (power), 21 VSSI (power), 30 VDDA_PA (power), 41 VSSI (power), 43 VDDA_PA (power), 44 VSSA (power), 46 VDD_DAC (power), 54 VDD_FS (power), 55 VDD_SCA (power), 60 VSSA (power), 65 VSSM (power), 66 VSSD (power), 68 VDDD (power), 81 VSSD (power), 101 VSSD (power), 102 VHI (power), 121 VSSD (power), 123 VDDD (power), 129 VSSD (power), 130 VSSM (power), 137 VDD_DISCRI (power), 139 VSSA (power), 141 VDD_SSH (power), 142 VDD_SC (power), 151 VSSA (power), 152 VDD_PA (power), 153 VDDA_PA (power), 154 VSSI (power), 158 VDD_DAC_5V (power)
part E pins: 47 GND_DAC (power), 56 GND_FS (power), 57 GND_CAPA_SCA_HG (power), 58 GND_CAPA_SCA_LG (power), 59 GND_SCA (power), 67 GNDD (power), 100 VLO (power), 122 GNDD (power), 138 GND_DISCRI (power), 140 GND_SSH (power), 143 GND_SC (power), 145 GND_CAPA (power), 150 GND_PA (power), 156 GND_DAC_5V (power)

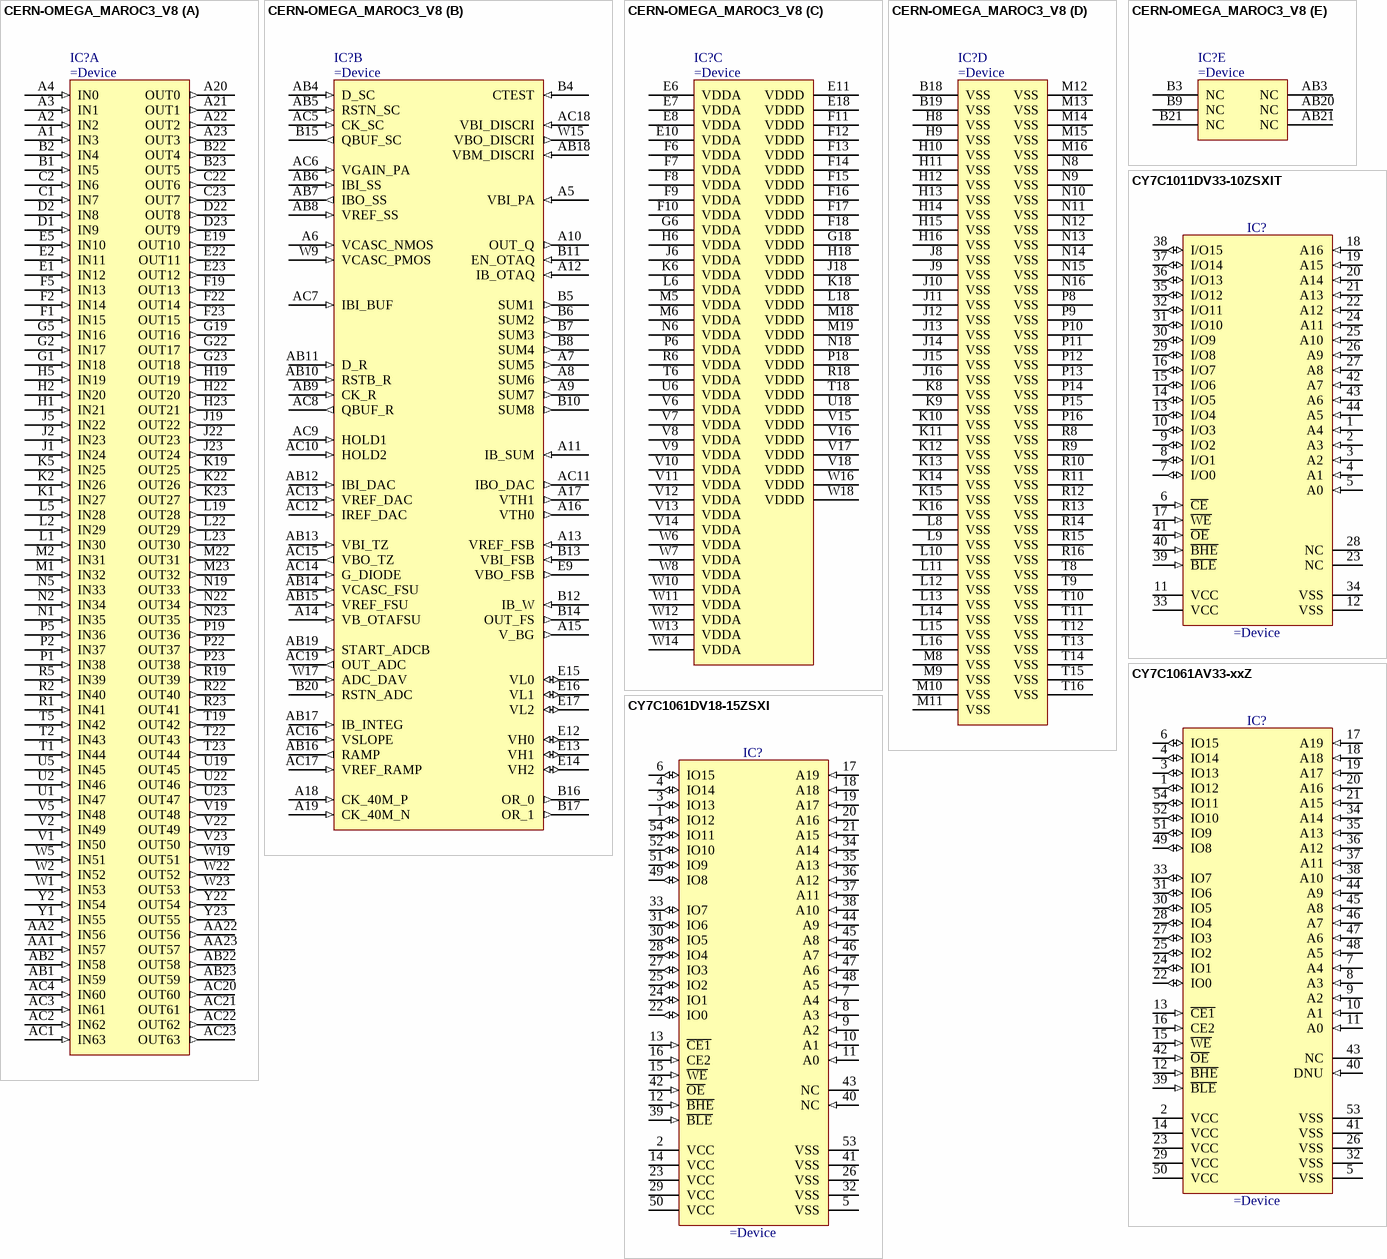
[diagram p43: symbols CERN-OMEGA_MAROC3_V8 to CY7C1061DV18-15ZSXI]

## CERN-OMEGA_MAROC3_V8
designator IC?
MAROC3 ASIC 64 Channels PMT, 353-Ball BGA
part A pins: A1 IN3 (in), A2 IN2 (in), A3 IN1 (in), A4 IN0 (in), A20 OUT0 (out), A21 OUT1 (out), A22 OUT2 (out), A23 OUT3 (out), AA1 IN57 (in), AA2 IN56 (in), AA22 OUT56 (out), AA23 OUT57 (out), AB1 IN59 (in), AB2 IN58 (in), AB22 OUT58 (out), AB23 OUT59 (out), AC1 IN63 (in), AC2 IN62 (in), AC3 IN61 (in), AC4 IN60 (in), AC20 OUT60 (out), AC21 OUT61 (out), AC22 OUT62 (out), AC23 OUT63 (out), B1 IN5 (in), B2 IN4 (in), B22 OUT4 (out), B23 OUT5 (out), C1 IN7 (in), C2 IN6 (in), C22 OUT6 (out), C23 OUT7 (out), D1 IN9 (in), D2 IN8 (in), D22 OUT8 (out), D23 OUT9 (out), E1 IN12 (in), E2 IN11 (in), E5 IN10 (in), E19 OUT10 (out), E22 OUT11 (out), E23 OUT12 (out), F1 IN15 (in), F2 IN14 (in), F5 IN13 (in), F19 OUT13 (out), F22 OUT14 (out), F23 OUT15 (out), G1 IN18 (in), G2 IN17 (in), G5 IN16 (in), G19 OUT16 (out), G22 OUT17 (out), G23 OUT18 (out), H1 IN21 (in), H2 IN20 (in), H5 IN19 (in), H19 OUT19 (out), H22 OUT20 (out), H23 OUT21 (out), J1 IN24 (in), J2 IN23 (in), J5 IN22 (in), J19 OUT22 (out), J22 OUT23 (out), J23 OUT24 (out), K1 IN27 (in), K2 IN26 (in), K5 IN25 (in), K19 OUT25 (out), K22 OUT26 (out), K23 OUT27 (out), L1 IN30 (in), L2 IN29 (in), L5 IN28 (in), L19 OUT28 (out), L22 OUT29 (out), L23 OUT30 (out), M1 IN32 (in), M2 IN31 (in), M22 OUT31 (out), M23 OUT32 (out), N1 IN35 (in), N2 IN34 (in), N5 IN33 (in), N19 OUT33 (out), N22 OUT34 (out), N23 OUT35 (out), P1 IN38 (in), P2 IN37 (in), P5 IN36 (in), P19 OUT36 (out), P22 OUT37 (out), P23 OUT38 (out), R1 IN41 (in), R2 IN40 (in), R5 IN39 (in), R19 OUT39 (out), R22 OUT40 (out), R23 OUT41 (out), T1 IN44 (in), T2 IN43 (in), T5 IN42 (in), T19 OUT42 (out), T22 OUT43 (out), T23 OUT44 (out), U1 IN47 (in), U2 IN46 (in), U5 IN45 (in), U19 OUT45 (out), U22 OUT46 (out), U23 OUT47 (out), V1 IN50 (in), V2 IN49 (in), V5 IN48 (in), V19 OUT48 (out), V22 OUT49 (out), V23 OUT50 (out), W1 IN53 (in), W2 IN52 (in), W5 IN51 (in), W19 OUT51 (out), W22 OUT52 (out), W23 OUT53 (out), Y1 IN55 (in), Y2 IN54 (in), Y22 OUT54 (out), Y23 OUT55 (out)
part B pins: A5 VBI_PA (in), A6 VCASC_NMOS (in), A7 SUM5 (out), A8 SUM6 (out), A9 SUM7 (out), A10 OUT_Q (out), A11 IB_SUM (in), A12 IB_OTAQ (in), A13 VREF_FSB (in), A14 VB_OTAFSU (in), A15 V_BG (out), A16 VTH0 (out), A17 VTH1 (out), A18 CK_40M_P (in), A19 CK_40M_N (in), AB4 D_SC (in), AB5 RSTN_SC (in), AB6 IBI_SS (in), AB7 IBO_SS (out), AB8 VREF_SS (in), AB9 CK_R (in), AB10 RSTB_R (in), AB11 D_R (in), AB12 IBI_DAC (in), AB13 VBI_TZ (in), AB14 VCASC_FSU (in), AB15 VREF_FSU (in), AB16 RAMP (out), AB17 IB_INTEG (in), AB18 VBM_DISCRI (in), AB19 START_ADCB (in), AC5 CK_SC (in), AC6 VGAIN_PA (in), AC7 IBI_BUF (in), AC8 QBUF_R (out), AC9 HOLD1 (in), AC10 HOLD2 (in), AC11 IBO_DAC (out), AC12 IREF_DAC (in), AC13 VREF_DAC (in), AC14 G_DIODE (in), AC15 VBO_TZ (out), AC16 VSLOPE (in), AC17 VREF_RAMP (in), AC18 VBI_DISCRI (in), AC19 OUT_ADC (out), B4 CTEST (in), B5 SUM1 (out), B6 SUM2 (out), B7 SUM3 (out), B8 SUM4 (out), B10 SUM8 (out), B11 EN_OTAQ (in), B12 IB_W (in), B13 VBI_FSB (in), B14 OUT_FS (out), B15 QBUF_SC (out), B16 OR_0 (out), B17 OR_1 (out), B20 RSTN_ADC (in), E9 VBO_FSB (out), E12 VH0 (io), E13 VH1 (io), E14 VH2 (io), E15 VL0 (io), E16 VL1 (io), E17 VL2 (io), W9 VCASC_PMOS (in), W15 VBO_DISCRI (out), W17 ADC_DAV (in)
part C pins: E6 VDDA (power), E7 VDDA (power), E8 VDDA (power), E10 VDDA (power), E11 VDDD (power), E18 VDDD (power), F6 VDDA (power), F7 VDDA (power), F8 VDDA (power), F9 VDDA (power), F10 VDDA (power), F11 VDDD (power), F12 VDDD (power), F13 VDDD (power), F14 VDDD (power), F15 VDDD (power), F16 VDDD (power), F17 VDDD (power), F18 VDDD (power), G6 VDDA (power), G18 VDDD (power), H6 VDDA (power), H18 VDDD (power), J6 VDDA (power), J18 VDDD (power), K6 VDDA (power), K18 VDDD (power), L6 VDDA (power), L18 VDDD (power), M5 VDDA (power), M6 VDDA (power), M18 VDDD (power), M19 VDDD (power), N6 VDDA (power), N18 VDDD (power), P6 VDDA (power), P18 VDDD (power), R6 VDDA (power), R18 VDDD (power), T6 VDDA (power), T18 VDDD (power), U6 VDDA (power), U18 VDDD (power), V6 VDDA (power), V7 VDDA (power), V8 VDDA (power), V9 VDDA (power), V10 VDDA (power), V11 VDDA (power), V12 VDDA (power), V13 VDDA (power), V14 VDDA (power), V15 VDDD (power), V16 VDDD (power), V17 VDDD (power), V18 VDDD (power), W6 VDDA (power), W7 VDDA (power), W8 VDDA (power), W10 VDDA (power), W11 VDDA (power), W12 VDDA (power), W13 VDDA (power), W14 VDDA (power), W16 VDDD (power), W18 VDDD (power)
part D pins: B18 VSS (power), B19 VSS (power), H8 VSS (power), H9 VSS (power), H10 VSS (power), H11 VSS (power), H12 VSS (power), H13 VSS (power), H14 VSS (power), H15 VSS (power), H16 VSS (power), J8 VSS (power), J9 VSS (power), J10 VSS (power), J11 VSS (power), J12 VSS (power), J13 VSS (power), J14 VSS (power), J15 VSS (power), J16 VSS (power), K8 VSS (power), K9 VSS (power), K10 VSS (power), K11 VSS (power), K12 VSS (power), K13 VSS (power), K14 VSS (power), K15 VSS (power), K16 VSS (power), L8 VSS (power), L9 VSS (power), L10 VSS (power), L11 VSS (power), L12 VSS (power), L13 VSS (power), L14 VSS (power), L15 VSS (power), L16 VSS (power), M8 VSS (power), M9 VSS (power), M10 VSS (power), M11 VSS (power), M12 VSS (power), M13 VSS (power), M14 VSS (power), M15 VSS (power), M16 VSS (power), N8 VSS (power), N9 VSS (power), N10 VSS (power), N11 VSS (power), N12 VSS (power), N13 VSS (power), N14 VSS (power), N15 VSS (power), N16 VSS (power), P8 VSS (power), P9 VSS (power), P10 VSS (power), P11 VSS (power), P12 VSS (power), P13 VSS (power), P14 VSS (power), P15 VSS (power), P16 VSS (power), R8 VSS (power), R9 VSS (power), R10 VSS (power), R11 VSS (power), R12 VSS (power), R13 VSS (power), R14 VSS (power), R15 VSS (power), R16 VSS (power), T8 VSS (power), T9 VSS (power), T10 VSS (power), T11 VSS (power), T12 VSS (power), T13 VSS (power), T14 VSS (power), T15 VSS (power), T16 VSS (power)
part E pins: AB3 NC, AB20 NC, AB21 NC, B3 NC, B9 NC, B21 NC

## CY7C1011DV33-10ZSXIT
designator IC?
2Mbit (128K x 16), 10ns 3.3V Static RAM
pins: 1 A4 (in), 2 A3 (in), 3 A2 (in), 4 A1 (in), 5 A0 (in), 6 ~{CE} (in), 7 I/O0 (io), 8 I/O1 (io), 9 I/O2 (io), 10 I/O3 (io), 11 VCC (power), 12 VSS (power), 13 I/O4 (io), 14 I/O5 (io), 15 I/O6 (io), 16 I/O7 (io), 17 ~{WE} (in), 18 A16 (in), 19 A15 (in), 20 A14 (in), 21 A13 (in), 22 A12 (in), 23 NC, 24 A11 (in), 25 A10 (in), 26 A9 (in), 27 A8 (in), 28 NC, 29 I/O8 (io), 30 I/O9 (io), 31 I/O10 (io), 32 I/O11 (io), 33 VCC (power), 34 VSS (power), 35 I/O12 (io), 36 I/O13 (io), 37 I/O14 (io), 38 I/O15 (io), 39 ~{BLE} (in), 40 ~{BHE} (in), 41 ~{OE} (in), 42 A7 (in), 43 A6 (in), 44 A5 (in)

## CY7C1061AV33-xxZ
designator IC?
16-Mbit (1M x 16) Static RAM
pins: 1 IO12 (io), 2 VCC (power), 3 IO13 (io), 4 IO14 (io), 5 VSS (power), 6 IO15 (io), 7 A4 (in), 8 A3 (in), 9 A2 (in), 10 A1 (in), 11 A0 (in), 12 ~{BHE} (in), 13 ~{CE1} (in), 14 VCC (power), 15 ~{WE} (in), 16 CE2 (in), 17 A19 (in), 18 A18 (in), 19 A17 (in), 20 A16 (in), 21 A15 (in), 22 IO0 (io), 23 VCC (power), 24 IO1 (io), 25 IO2 (io), 26 VSS (power), 27 IO3 (io), 28 IO4 (io), 29 VCC (power), 30 IO5 (io), 31 IO6 (io), 32 VSS (power), 33 IO7 (io), 34 A14 (in), 35 A13 (in), 36 A12 (in), 37 A11 (in), 38 A10 (in), 39 ~{BLE} (in), 40 DNU (in), 41 VSS (power), 42 ~{OE} (in), 43 NC, 44 A9 (in), 45 A8 (in), 46 A7 (in), 47 A6 (in), 48 A5 (in), 49 IO8 (io), 50 VCC (power), 51 IO9 (io), 52 IO10 (io), 53 VSS (power), 54 IO11 (io)

## CY7C1061DV18-15ZSXI
designator IC?
16-Mbit (1M x 16) Static RAM
pins: 1 IO12 (io), 2 VCC (power), 3 IO13 (io), 4 IO14 (io), 5 VSS (power), 6 IO15 (io), 7 A4 (in), 8 A3 (in), 9 A2 (in), 10 A1 (in), 11 A0 (in), 12 ~{BHE} (in), 13 ~{CE1} (in), 14 VCC (power), 15 ~{WE} (in), 16 CE2 (in), 17 A19 (in), 18 A18 (in), 19 A17 (in), 20 A16 (in), 21 A15 (in), 22 IO0 (io), 23 VCC (power), 24 IO1 (io), 25 IO2 (io), 26 VSS (power), 27 IO3 (io), 28 IO4 (io), 29 VCC (power), 30 IO5 (io), 31 IO6 (io), 32 VSS (power), 33 IO7 (io), 34 A14 (in), 35 A13 (in), 36 A12 (in), 37 A11 (in), 38 A10 (in), 39 ~{BLE} (in), 40 NC (in), 41 VSS (power), 42 ~{OE} (in), 43 NC, 44 A9 (in), 45 A8 (in), 46 A7 (in), 47 A6 (in), 48 A5 (in), 49 IO8 (io), 50 VCC (power), 51 IO9 (io), 52 IO10 (io), 53 VSS (power), 54 IO11 (io)

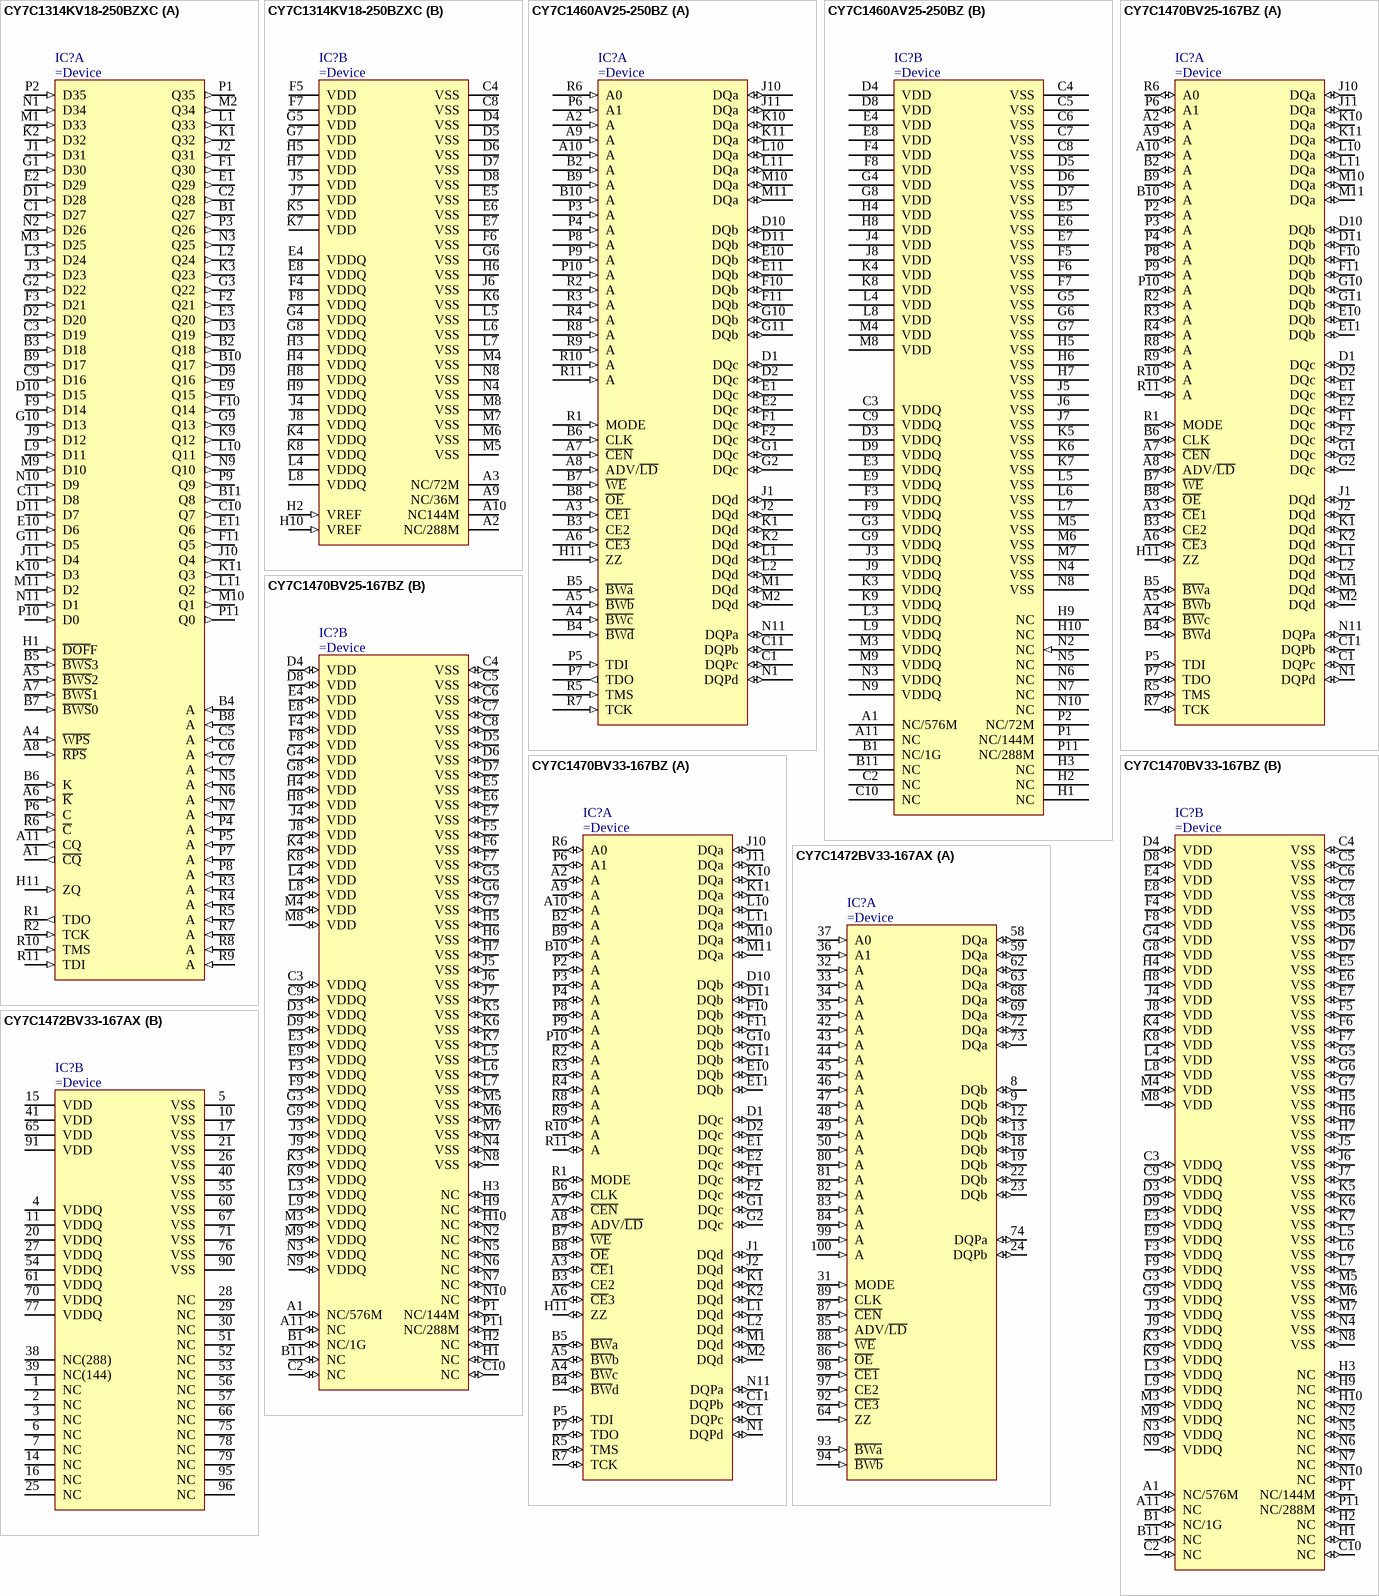
[diagram p44: symbols CY7C1314KV18-250BZXC to CY7C1472BV33-167AX]

## CY7C1314KV18-250BZXC
designator IC?
1.8V, 250MHz, 18-Mbit (512k X 36) QDR®II SRAM 2-Word Burst Architecture
part A pins: A1 ~{CQ} (out), A4 ~{WPS} (in), A5 ~{BWS}2 (in), A6 ~{K} (in), A7 ~{BWS}1 (in), A8 ~{RPS} (in), A11 CQ (out), B1 Q27 (out), B2 Q18 (out), B3 D18 (in), B4 A (in), B5 ~{BWS}3 (in), B6 K (in), B7 ~{BWS}0 (in), B8 A (in), B9 D17 (in), B10 Q17 (out), B11 Q8 (out), C1 D27 (in), C2 Q28 (out), C3 D19 (in), C5 A (in), C6 A (in), C7 A (in), C9 D16 (in), C10 Q7 (out), C11 D8 (in), D1 D28 (in), D2 D20 (in), D3 Q19 (out), D9 Q16 (out), D10 D15 (in), D11 D7 (in), E1 Q29 (out), E2 D29 (in), E3 Q20 (out), E9 Q15 (out), E10 D6 (in), E11 Q6 (out), F1 Q30 (out), F2 Q21 (out), F3 D21 (in), F9 D14 (in), F10 Q14 (out), F11 Q5 (out), G1 D30 (in), G2 D22 (in), G3 Q22 (out), G9 Q13 (out), G10 D13 (in), G11 D5 (in), H1 ~{DOF}F (in), H11 ZQ (in), J1 D31 (in), J2 Q31 (out), J3 D23 (in), J9 D12 (in), J10 Q4 (out), J11 D4 (in), K1 Q32 (out), K2 D32 (in), K3 Q23 (out), K9 Q12 (out), K10 D3 (in), K11 Q3 (out), L1 Q33 (out), L2 Q24 (out), L3 D24 (in), L9 D11 (in), L10 Q11 (out), L11 Q2 (out), M1 D33 (in), M2 Q34 (out), M3 D25 (in), M9 D10 (in), M10 Q1 (out), M11 D2 (in), N1 D34 (in), N2 D26 (in), N3 Q25 (out), N5 A (in), N6 A (in), N7 A (in), N9 Q10 (out), N10 D9 (in), N11 D1 (in), P1 Q35 (out), P2 D35 (in), P3 Q26 (out), P4 A (in), P5 A (in), P6 C (in), P7 A (in), P8 A (in), P9 Q9 (out), P10 D0 (in), P11 Q0 (out), R1 TDO (out), R2 TCK (in), R3 A (in), R4 A (in), R5 A (in), R6 ~{C} (in), R7 A (in), R8 A (in), R9 A (in), R10 TMS (in), R11 TDI (in)
part B pins: A2 NC/288M, A3 NC/72M, A9 NC/36M, A10 NC144M, C4 VSS (power), C8 VSS (power), D4 VSS (power), D5 VSS (power), D6 VSS (power), D7 VSS (power), D8 VSS (power), E4 VDDQ (power), E5 VSS (power), E6 VSS (power), E7 VSS (power), E8 VDDQ (power), F4 VDDQ (power), F5 VDD (power), F6 VSS (power), F7 VDD (power), F8 VDDQ (power), G4 VDDQ (power), G5 VDD (power), G6 VSS (power), G7 VDD (power), G8 VDDQ (power), H2 VREF (in), H3 VDDQ (power), H4 VDDQ (power), H5 VDD (power), H6 VSS (power), H7 VDD (power), H8 VDDQ (power), H9 VDDQ (power), H10 VREF (in), J4 VDDQ (power), J5 VDD (power), J6 VSS (power), J7 VDD (power), J8 VDDQ (power), K4 VDDQ (power), K5 VDD (power), K6 VSS (power), K7 VDD (power), K8 VDDQ (power), L4 VDDQ (power), L5 VSS (power), L6 VSS (power), L7 VSS (power), L8 VDDQ (power), M4 VSS (power), M5 VSS (power), M6 VSS (power), M7 VSS (power), M8 VSS (power), N4 VSS (power), N8 VSS (power)

## CY7C1460AV25-250BZ
designator IC?
36-Mbit (1M x 36) Pipelined SRAM with NoBL Architecture
part A pins: A2 A (in), A3 ~{CE1} (in), A4 ~{BWc} (in), A5 ~{BWb} (in), A6 ~{CE3} (in), A7 ~{CEN} (in), A8 ADV/~{LD} (in), A9 A (in), A10 A (in), B2 A (in), B3 CE2 (in), B4 ~{BWd} (in), B5 ~{BWa} (in), B6 CLK (in), B7 ~{WE} (in), B8 ~{OE} (in), B9 A (in), B10 A (in), C1 DQPc (io), C11 DQPb (io), D1 DQc (io), D2 DQc (io), D10 DQb (io), D11 DQb (io), E1 DQc (io), E2 DQc (io), E10 DQb (io), E11 DQb (io), F1 DQc (io), F2 DQc (io), F10 DQb (io), F11 DQb (io), G1 DQc (io), G2 DQc (io), G10 DQb (io), G11 DQb (io), H11 ZZ (in), J1 DQd (io), J2 DQd (io), J10 DQa (io), J11 DQa (io), K1 DQd (io), K2 DQd (io), K10 DQa (io), K11 DQa (io), L1 DQd (io), L2 DQd (io), L10 DQa (io), L11 DQa (io), M1 DQd (io), M2 DQd (io), M10 DQa (io), M11 DQa (io), N1 DQPd (io), N11 DQPa (io), P3 A (in), P4 A (in), P5 TDI (in), P6 A1 (in), P7 TDO (out), P8 A (in), P9 A (in), P10 A (in), R1 MODE (in), R2 A (in), R3 A (in), R4 A (in), R5 TMS (in), R6 A0 (in), R7 TCK (in), R8 A (in), R9 A (in), R10 A (in), R11 A (in)
part B pins: A1 NC/576M, A11 NC, B1 NC/1G, B11 NC, C2 NC, C3 VDDQ (power), C4 VSS (power), C5 VSS (power), C6 VSS (power), C7 VSS (power), C8 VSS (power), C9 VDDQ (power), C10 NC, D3 VDDQ (power), D4 VDD (power), D5 VSS (power), D6 VSS (power), D7 VSS (power), D8 VDD (power), D9 VDDQ (power), E3 VDDQ (power), E4 VDD (power), E5 VSS (power), E6 VSS (power), E7 VSS (power), E8 VDD (power), E9 VDDQ (power), F3 VDDQ (power), F4 VDD (power), F5 VSS (power), F6 VSS (power), F7 VSS (power), F8 VDD (power), F9 VDDQ (power), G3 VDDQ (power), G4 VDD (power), G5 VSS (power), G6 VSS (power), G7 VSS (power), G8 VDD (power), G9 VDDQ (power), H1 NC, H2 NC, H3 NC, H4 VDD (power), H5 VSS (power), H6 VSS (power), H7 VSS (power), H8 VDD (power), H9 NC, H10 NC, J3 VDDQ (power), J4 VDD (power), J5 VSS (power), J6 VSS (power), J7 VSS (power), J8 VDD (power), J9 VDDQ (power), K3 VDDQ (power), K4 VDD (power), K5 VSS (power), K6 VSS (power), K7 VSS (power), K8 VDD (power), K9 VDDQ (power), L3 VDDQ (power), L4 VDD (power), L5 VSS (power), L6 VSS (power), L7 VSS (power), L8 VDD (power), L9 VDDQ (power), M3 VDDQ (power), M4 VDD (power), M5 VSS (power), M6 VSS (power), M7 VSS (power), M8 VDD (power), M9 VDDQ (power), N2 NC (in), N3 VDDQ (power), N4 VSS (power), N5 NC, N6 NC, N7 NC, N8 VSS (power), N9 VDDQ (power), N10 NC, P1 NC/144M, P2 NC/72M, P11 NC/288M

## CY7C1470BV25-167BZ
designator IC?
72-Mbit (2M x 36) Pipelined SRAM with NoBL Architecture
part A pins: A2 A (io), A3 ~{CE}1 (io), A4 ~{BW}c (io), A5 ~{BW}b (io), A6 ~{CE}3 (io), A7 ~{CEN} (io), A8 ADV/~{LD} (io), A9 A (io), A10 A (io), B2 A (io), B3 CE2 (io), B4 ~{BW}d (io), B5 ~{BW}a (io), B6 CLK (io), B7 ~{WE} (io), B8 ~{OE} (io), B9 A (io), B10 A (io), C1 DQPc (io), C11 DQPb (io), D1 DQc (io), D2 DQc (io), D10 DQb (io), D11 DQb (io), E1 DQc (io), E2 DQc (io), E10 DQb (io), E11 DQb (io), F1 DQc (io), F2 DQc (io), F10 DQb (io), F11 DQb (io), G1 DQc (io), G2 DQc (io), G10 DQb (io), G11 DQb (io), H11 ZZ (io), J1 DQd (io), J2 DQd (io), J10 DQa (io), J11 DQa (io), K1 DQd (io), K2 DQd (io), K10 DQa (io), K11 DQa (io), L1 DQd (io), L2 DQd (io), L10 DQa (io), L11 DQa (io), M1 DQd (io), M2 DQd (io), M10 DQa (io), M11 DQa (io), N1 DQPd (io), N11 DQPa (io), P2 A (io), P3 A (io), P4 A (io), P5 TDI (io), P6 A1 (io), P7 TDO (io), P8 A (io), P9 A (io), P10 A (io), R1 MODE (io), R2 A (io), R3 A (io), R4 A (io), R5 TMS (io), R6 A0 (io), R7 TCK (io), R8 A (io), R9 A (io), R10 A (io), R11 A (io)
part B pins: A1 NC/576M (io), A11 NC (io), B1 NC/1G (io), B11 NC (io), C2 NC (io), C3 VDDQ (io), C4 VSS (io), C5 VSS (io), C6 VSS (io), C7 VSS (io), C8 VSS (io), C9 VDDQ (io), C10 NC (io), D3 VDDQ (io), D4 VDD (io), D5 VSS (io), D6 VSS (io), D7 VSS (io), D8 VDD (io), D9 VDDQ (io), E3 VDDQ (io), E4 VDD (io), E5 VSS (io), E6 VSS (io), E7 VSS (io), E8 VDD (io), E9 VDDQ (io), F3 VDDQ (io), F4 VDD (io), F5 VSS (io), F6 VSS (io), F7 VSS (io), F8 VDD (io), F9 VDDQ (io), G3 VDDQ (io), G4 VDD (io), G5 VSS (io), G6 VSS (io), G7 VSS (io), G8 VDD (io), G9 VDDQ (io), H1 NC (io), H2 NC (io), H3 NC (io), H4 VDD (io), H5 VSS (io), H6 VSS (io), H7 VSS (io), H8 VDD (io), H9 NC (io), H10 NC (io), J3 VDDQ (io), J4 VDD (io), J5 VSS (io), J6 VSS (io), J7 VSS (io), J8 VDD (io), J9 VDDQ (io), K3 VDDQ (io), K4 VDD (io), K5 VSS (io), K6 VSS (io), K7 VSS (io), K8 VDD (io), K9 VDDQ (io), L3 VDDQ (io), L4 VDD (io), L5 VSS (io), L6 VSS (io), L7 VSS (io), L8 VDD (io), L9 VDDQ (io), M3 VDDQ (io), M4 VDD (io), M5 VSS (io), M6 VSS (io), M7 VSS (io), M8 VDD (io), M9 VDDQ (io), N2 NC (io), N3 VDDQ (io), N4 VSS (io), N5 NC (io), N6 NC (io), N7 NC (io), N8 VSS (io), N9 VDDQ (io), N10 NC (io), P1 NC/144M (io), P11 NC/288M (io)

## CY7C1470BV33-167BZ
designator IC?
72-Mbit (2M x 36) Pipelined 3.3V SRAM with NoBL Architecture
part A pins: A2 A (io), A3 ~{CE}1 (io), A4 ~{BW}c (io), A5 ~{BW}b (io), A6 ~{CE}3 (io), A7 ~{CEN} (io), A8 ADV/~{LD} (io), A9 A (io), A10 A (io), B2 A (io), B3 CE2 (io), B4 ~{BW}d (io), B5 ~{BW}a (io), B6 CLK (io), B7 ~{WE} (io), B8 ~{OE} (io), B9 A (io), B10 A (io), C1 DQPc (io), C11 DQPb (io), D1 DQc (io), D2 DQc (io), D10 DQb (io), D11 DQb (io), E1 DQc (io), E2 DQc (io), E10 DQb (io), E11 DQb (io), F1 DQc (io), F2 DQc (io), F10 DQb (io), F11 DQb (io), G1 DQc (io), G2 DQc (io), G10 DQb (io), G11 DQb (io), H11 ZZ (io), J1 DQd (io), J2 DQd (io), J10 DQa (io), J11 DQa (io), K1 DQd (io), K2 DQd (io), K10 DQa (io), K11 DQa (io), L1 DQd (io), L2 DQd (io), L10 DQa (io), L11 DQa (io), M1 DQd (io), M2 DQd (io), M10 DQa (io), M11 DQa (io), N1 DQPd (io), N11 DQPa (io), P2 A (io), P3 A (io), P4 A (io), P5 TDI (io), P6 A1 (io), P7 TDO (io), P8 A (io), P9 A (io), P10 A (io), R1 MODE (io), R2 A (io), R3 A (io), R4 A (io), R5 TMS (io), R6 A0 (io), R7 TCK (io), R8 A (io), R9 A (io), R10 A (io), R11 A (io)
part B pins: A1 NC/576M (io), A11 NC (io), B1 NC/1G (io), B11 NC (io), C2 NC (io), C3 VDDQ (io), C4 VSS (io), C5 VSS (io), C6 VSS (io), C7 VSS (io), C8 VSS (io), C9 VDDQ (io), C10 NC (io), D3 VDDQ (io), D4 VDD (io), D5 VSS (io), D6 VSS (io), D7 VSS (io), D8 VDD (io), D9 VDDQ (io), E3 VDDQ (io), E4 VDD (io), E5 VSS (io), E6 VSS (io), E7 VSS (io), E8 VDD (io), E9 VDDQ (io), F3 VDDQ (io), F4 VDD (io), F5 VSS (io), F6 VSS (io), F7 VSS (io), F8 VDD (io), F9 VDDQ (io), G3 VDDQ (io), G4 VDD (io), G5 VSS (io), G6 VSS (io), G7 VSS (io), G8 VDD (io), G9 VDDQ (io), H1 NC (io), H2 NC (io), H3 NC (io), H4 VDD (io), H5 VSS (io), H6 VSS (io), H7 VSS (io), H8 VDD (io), H9 NC (io), H10 NC (io), J3 VDDQ (io), J4 VDD (io), J5 VSS (io), J6 VSS (io), J7 VSS (io), J8 VDD (io), J9 VDDQ (io), K3 VDDQ (io), K4 VDD (io), K5 VSS (io), K6 VSS (io), K7 VSS (io), K8 VDD (io), K9 VDDQ (io), L3 VDDQ (io), L4 VDD (io), L5 VSS (io), L6 VSS (io), L7 VSS (io), L8 VDD (io), L9 VDDQ (io), M3 VDDQ (io), M4 VDD (io), M5 VSS (io), M6 VSS (io), M7 VSS (io), M8 VDD (io), M9 VDDQ (io), N2 NC (io), N3 VDDQ (io), N4 VSS (io), N5 NC (io), N6 NC (io), N7 NC (io), N8 VSS (io), N9 VDDQ (io), N10 NC (io), P1 NC/144M (io), P11 NC/288M (io)

## CY7C1472BV33-167AX
designator IC?
72-Mbit (4M × 18) Pipelined SRAM with NoBL™ Architecture
part A pins: 8 DQb (io), 9 DQb (io), 12 DQb (io), 13 DQb (io), 18 DQb (io), 19 DQb (io), 22 DQb (io), 23 DQb (io), 24 DQPb (io), 31 MODE (in), 32 A (in), 33 A (in), 34 A (in), 35 A (in), 36 A1 (in), 37 A0 (in), 42 A (in), 43 A (in), 44 A (in), 45 A (in), 46 A (in), 47 A (in), 48 A (in), 49 A (in), 50 A (in), 58 DQa (io), 59 DQa (io), 62 DQa (io), 63 DQa (io), 64 ZZ (in), 68 DQa (io), 69 DQa (io), 72 DQa (io), 73 DQa (io), 74 DQPa (io), 80 A (in), 81 A (in), 82 A (in), 83 A (in), 84 A (in), 85 ADV/~{LD} (in), 86 ~{OE} (in), 87 ~{CEN} (in), 88 ~{WE} (in), 89 CLK (in), 92 ~{CE3} (in), 93 ~{BWa} (in), 94 ~{BWb} (in), 97 CE2 (in), 98 ~{CE1} (in), 99 A (in), 100 A (in)
part B pins: 1 NC, 2 NC, 3 NC, 4 VDDQ (power), 5 VSS (power), 6 NC, 7 NC, 10 VSS (power), 11 VDDQ (power), 14 NC, 15 VDD (power), 16 NC, 17 VSS (power), 20 VDDQ (power), 21 VSS (power), 25 NC, 26 VSS (power), 27 VDDQ (power), 28 NC, 29 NC, 30 NC, 38 NC(288), 39 NC(144), 40 VSS (power), 41 VDD (power), 51 NC, 52 NC, 53 NC, 54 VDDQ (power), 55 VSS (power), 56 NC, 57 NC, 60 VSS (power), 61 VDDQ (power), 65 VDD (power), 66 NC, 67 VSS (power), 70 VDDQ (power), 71 VSS (power), 75 NC, 76 VSS (power), 77 VDDQ (power), 78 NC, 79 NC, 90 VSS (power), 91 VDD (power), 95 NC, 96 NC

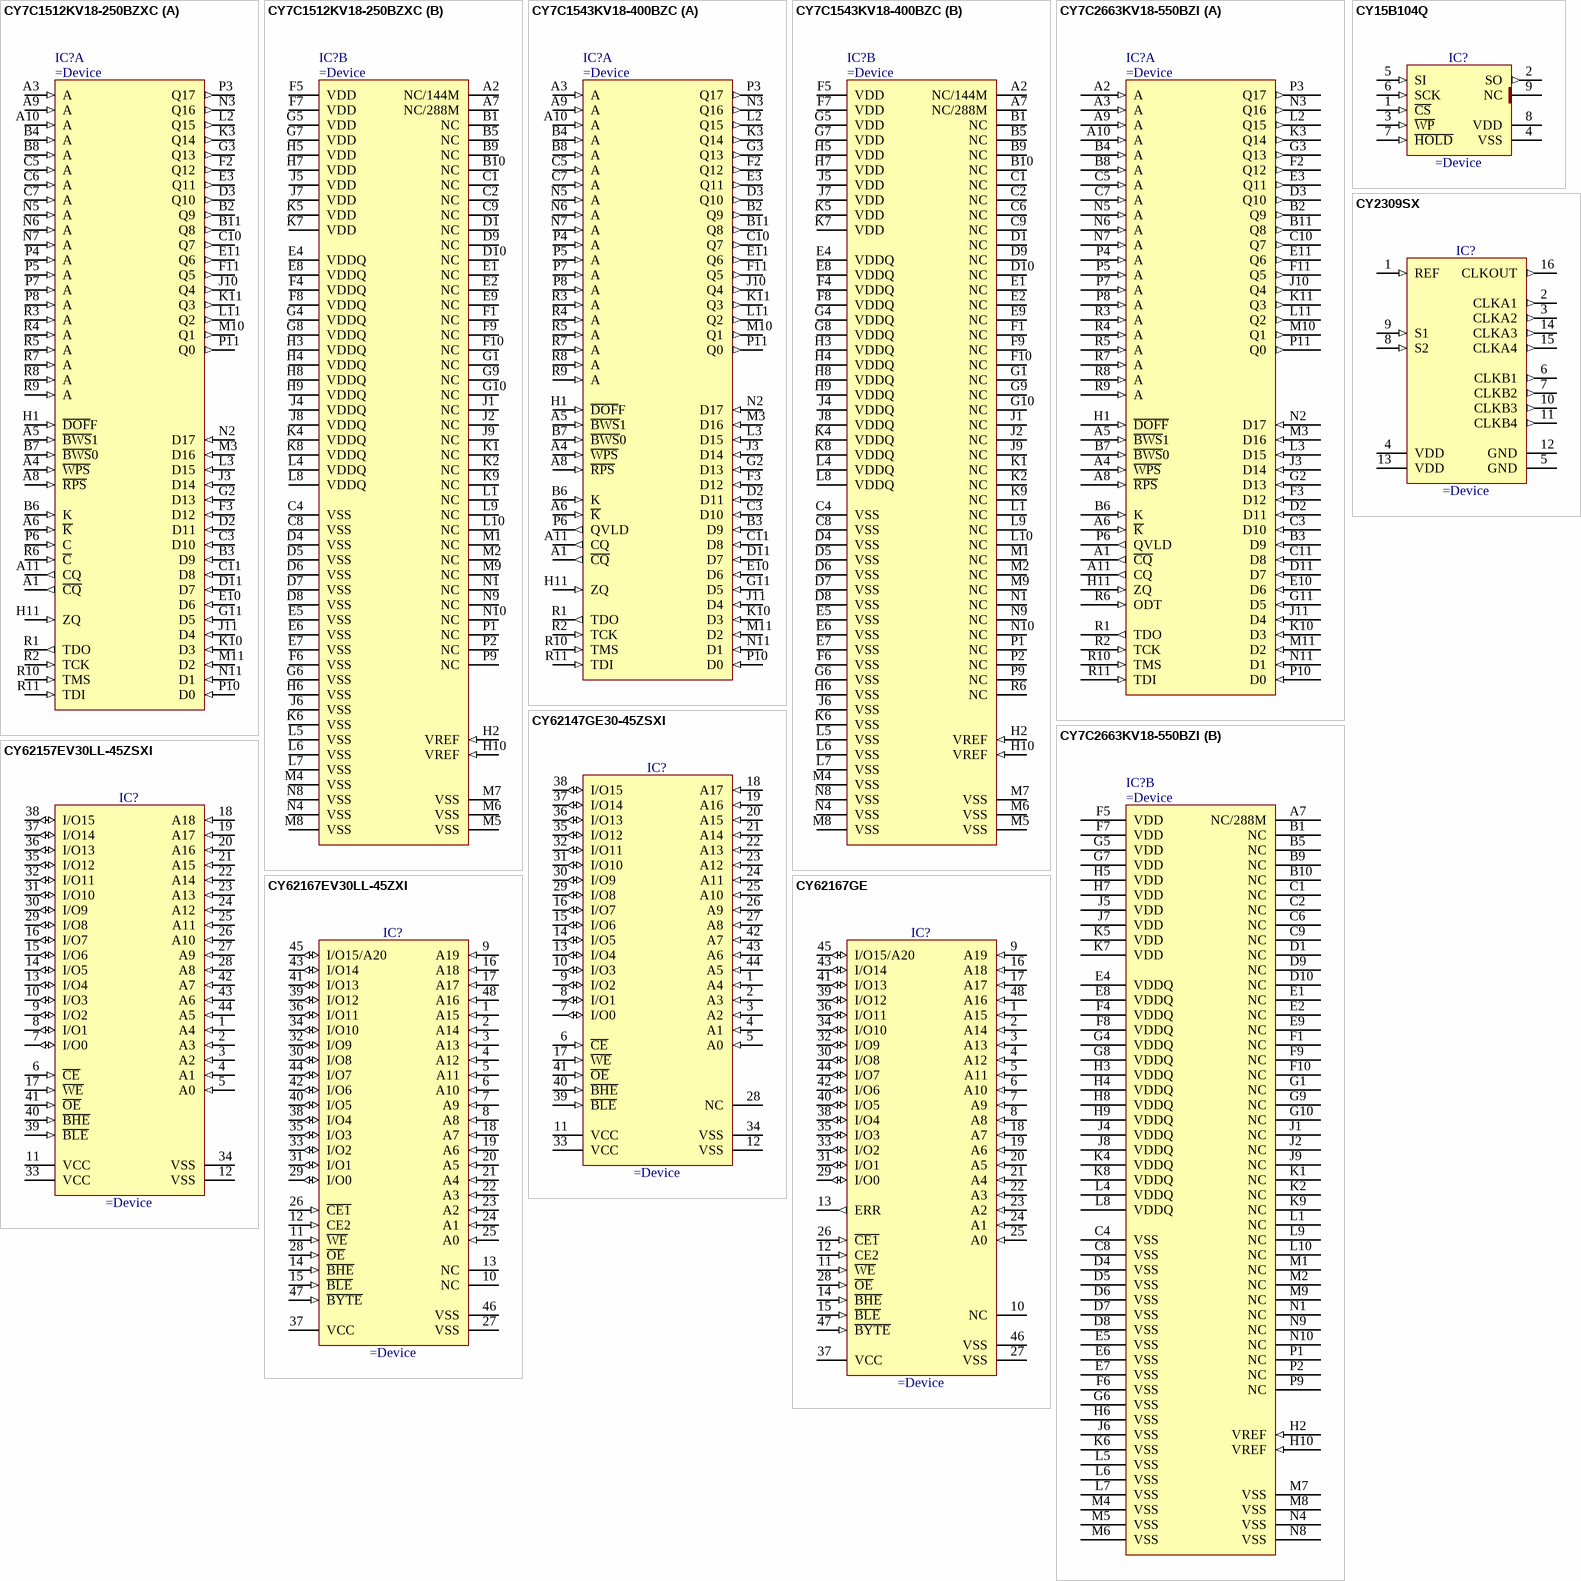
[diagram p45: symbols CY7C1512KV18-250BZXC to CY62167GE]

## CY7C1512KV18-250BZXC
designator IC?
72-Mbit QDR® II SRAM 2-Word Burst Architecture
part A pins: A1 ~{CQ} (out), A3 A (in), A4 ~{WPS} (in), A5 ~{BWS}1 (in), A6 ~{K} (in), A8 ~{RPS} (in), A9 A (in), A10 A (in), A11 CQ (out), B2 Q9 (out), B3 D9 (in), B4 A (in), B6 K (in), B7 ~{BWS}0 (in), B8 A (in), B11 Q8 (out), C3 D10 (in), C5 A (in), C6 A (in), C7 A (in), C10 Q7 (out), C11 D8 (in), D2 D11 (in), D3 Q10 (out), D11 D7 (in), E3 Q11 (out), E10 D6 (in), E11 Q6 (out), F2 Q12 (out), F3 D12 (in), F11 Q5 (out), G2 D13 (in), G3 Q13 (out), G11 D5 (in), H1 ~{DOF}F (in), H11 ZQ (in), J3 D14 (in), J10 Q4 (out), J11 D4 (in), K3 Q14 (out), K10 D3 (in), K11 Q3 (out), L2 Q15 (out), L3 D15 (in), L11 Q2 (out), M3 D16 (in), M10 Q1 (out), M11 D2 (in), N2 D17 (in), N3 Q16 (out), N5 A (in), N6 A (in), N7 A (in), N11 D1 (in), P3 Q17 (out), P4 A (in), P5 A (in), P6 C (in), P7 A (in), P8 A (in), P10 D0 (in), P11 Q0 (out), R1 TDO (out), R2 TCK (in), R3 A (in), R4 A (in), R5 A (in), R6 ~{C} (in), R7 A (in), R8 A (in), R9 A (in), R10 TMS (in), R11 TDI (in)
part B pins: A2 NC/144M, A7 NC/288M, B1 NC, B5 NC, B9 NC, B10 NC, C1 NC, C2 NC, C4 VSS (power), C8 VSS (power), C9 NC, D1 NC, D4 VSS (power), D5 VSS (power), D6 VSS (power), D7 VSS (power), D8 VSS (power), D9 NC, D10 NC, E1 NC, E2 NC, E4 VDDQ (power), E5 VSS (power), E6 VSS (power), E7 VSS (power), E8 VDDQ (power), E9 NC, F1 NC, F4 VDDQ (power), F5 VDD (power), F6 VSS (power), F7 VDD (power), F8 VDDQ (power), F9 NC, F10 NC, G1 NC, G4 VDDQ (power), G5 VDD (power), G6 VSS (power), G7 VDD (power), G8 VDDQ (power), G9 NC, G10 NC, H2 VREF (in), H3 VDDQ (power), H4 VDDQ (power), H5 VDD (power), H6 VSS (power), H7 VDD (power), H8 VDDQ (power), H9 VDDQ (power), H10 VREF (in), J1 NC, J2 NC, J4 VDDQ (power), J5 VDD (power), J6 VSS (power), J7 VDD (power), J8 VDDQ (power), J9 NC, K1 NC, K2 NC, K4 VDDQ (power), K5 VDD (power), K6 VSS (power), K7 VDD (power), K8 VDDQ (power), K9 NC, L1 NC, L4 VDDQ (power), L5 VSS (power), L6 VSS (power), L7 VSS (power), L8 VDDQ (power), L9 NC, L10 NC, M1 NC, M2 NC, M4 VSS (power), M5 VSS (power), M6 VSS (power), M7 VSS (power), M8 VSS (power), M9 NC, N1 NC, N4 VSS (power), N8 VSS (power), N9 NC, N10 NC, P1 NC, P2 NC, P9 NC

## CY7C1543KV18-400BZC
designator IC?
72-Mbit QDR®II+ SRAM 4-Word Burst Architecture (2.0 Cycle Read Latency)
part A pins: A1 ~{CQ} (out), A3 A (in), A4 ~{WPS} (in), A5 ~{BWS}1 (in), A6 ~{K} (in), A8 ~{RPS} (in), A9 A (in), A10 A (in), A11 CQ (out), B2 Q9 (out), B3 D9 (in), B4 A (in), B6 K (in), B7 ~{BWS}0 (in), B8 A (in), B11 Q8 (out), C3 D10 (in), C5 A (in), C7 A (in), C10 Q7 (out), C11 D8 (in), D2 D11 (in), D3 Q10 (out), D11 D7 (in), E3 Q11 (out), E10 D6 (in), E11 Q6 (out), F2 Q12 (out), F3 D12 (in), F11 Q5 (out), G2 D13 (in), G3 Q13 (out), G11 D5 (in), H1 ~{DOF}F (in), H11 ZQ (in), J3 D14 (in), J10 Q4 (out), J11 D4 (in), K3 Q14 (out), K10 D3 (in), K11 Q3 (out), L2 Q15 (out), L3 D15 (in), L11 Q2 (out), M3 D16 (in), M10 Q1 (out), M11 D2 (in), N2 D17 (in), N3 Q16 (out), N5 A (in), N6 A (in), N7 A (in), N11 D1 (in), P3 Q17 (out), P4 A (in), P5 A (in), P6 QVLD (out), P7 A (in), P8 A (in), P10 D0 (in), P11 Q0 (out), R1 TDO (out), R2 TCK (in), R3 A (in), R4 A (in), R5 A (in), R7 A (in), R8 A (in), R9 A (in), R10 TMS (in), R11 TDI (in)
part B pins: A2 NC/144M, A7 NC/288M, B1 NC, B5 NC, B9 NC, B10 NC, C1 NC, C2 NC, C4 VSS (power), C6 NC, C8 VSS (power), C9 NC, D1 NC, D4 VSS (power), D5 VSS (power), D6 VSS (power), D7 VSS (power), D8 VSS (power), D9 NC, D10 NC, E1 NC, E2 NC, E4 VDDQ (power), E5 VSS (power), E6 VSS (power), E7 VSS (power), E8 VDDQ (power), E9 NC, F1 NC, F4 VDDQ (power), F5 VDD (power), F6 VSS (power), F7 VDD (power), F8 VDDQ (power), F9 NC, F10 NC, G1 NC, G4 VDDQ (power), G5 VDD (power), G6 VSS (power), G7 VDD (power), G8 VDDQ (power), G9 NC, G10 NC, H2 VREF (in), H3 VDDQ (power), H4 VDDQ (power), H5 VDD (power), H6 VSS (power), H7 VDD (power), H8 VDDQ (power), H9 VDDQ (power), H10 VREF (in), J1 NC, J2 NC, J4 VDDQ (power), J5 VDD (power), J6 VSS (power), J7 VDD (power), J8 VDDQ (power), J9 NC, K1 NC, K2 NC, K4 VDDQ (power), K5 VDD (power), K6 VSS (power), K7 VDD (power), K8 VDDQ (power), K9 NC, L1 NC, L4 VDDQ (power), L5 VSS (power), L6 VSS (power), L7 VSS (power), L8 VDDQ (power), L9 NC, L10 NC, M1 NC, M2 NC, M4 VSS (power), M5 VSS (power), M6 VSS (power), M7 VSS (power), M8 VSS (power), M9 NC, N1 NC, N4 VSS (power), N8 VSS (power), N9 NC, N10 NC, P1 NC, P2 NC, P9 NC, R6 NC